# Altium integrated library Renesas Microcontroller H8.IntLib: 489 symbols (part 8 of 25)
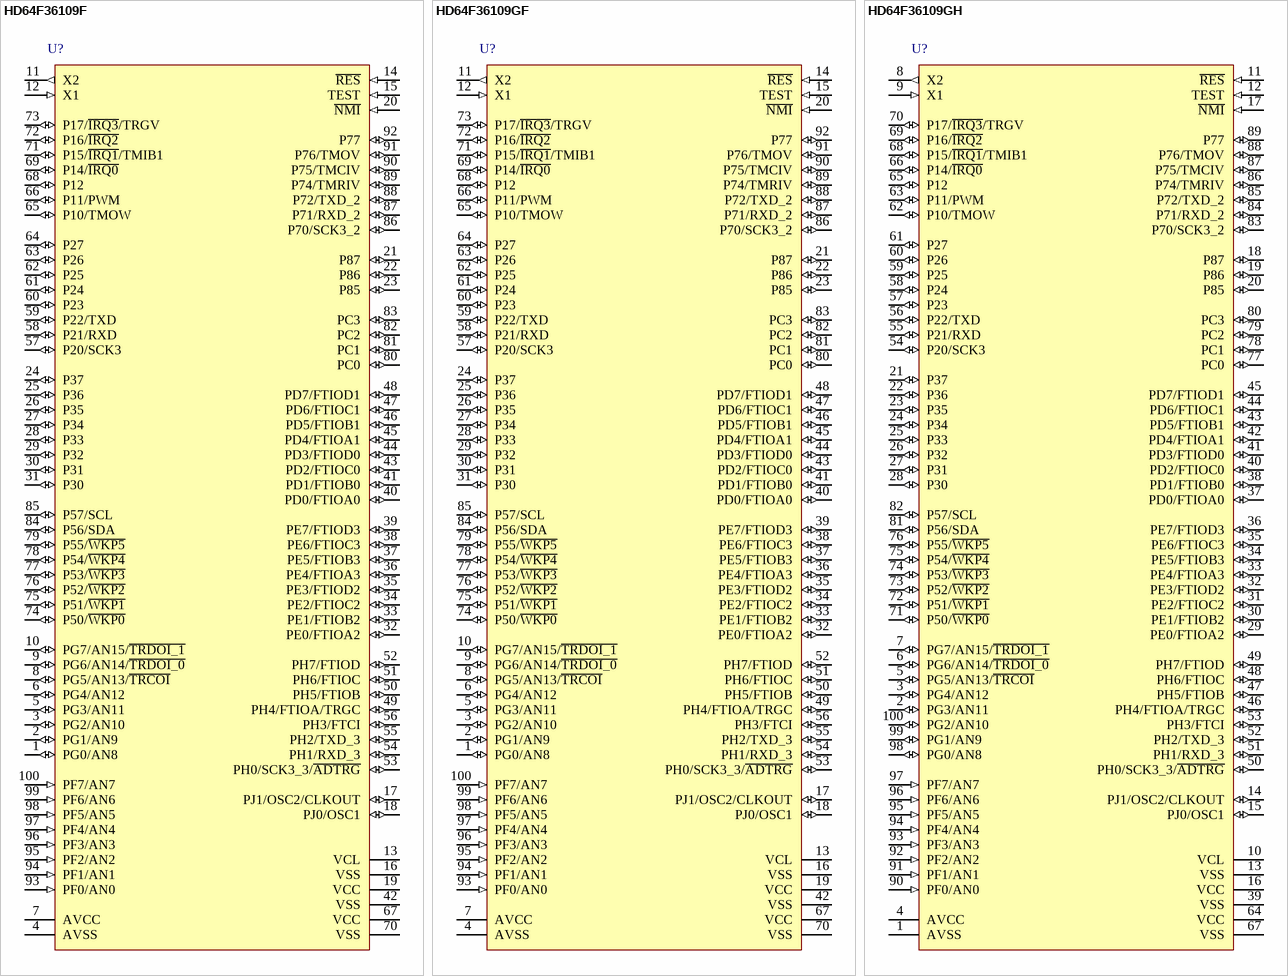
[diagram p95: symbols HD64F36109F to HD64F36109GH]

## HD64F36109F
designator U?
H8 Family 32/16-bit CISC, H8/300H Tiny, 128K ROM, 5K RAM, 4 to 10MHz, 3.0 to 5.5V, 100-Pin QFP; Published: 28-Aug-2009; DatasheetVersion: Rev.1.50, Sep-2007; PackageVersion: Sep-2005; PackageReference: PRQP0100JE-B; Publisher: Altium Limited; PackageDescription: 100-Pin Plastic Quad Flat Pack, 20 x 14 x 2.7 mm Body, 0.65 mm Pitch; Code_JEITA: P-QFP100-14x20-0.65; ComponentLink1Description: Manufacturer Link; ComponentLink1URL: http://sg.renesas.com/fmwk.jsp?cnt=h8_family_landing.jsp&fp=/products/mpumcu/h8_family/; ComponentLink2Description: Datasheet; ComponentLink2URL: http://documentation.renesas.com/eng/products/mpumcu/rej09b0240_h836109hm.pdf; ComponentLink3Description: Packaging Specification; ComponentLink3URL: http://sg.renesas.com/media/products/common_info/package/pdf/ic/code/prqp0100je_b.pdf
footprint PRQP0100JE-B_N (QFP, 100-Leads, Body 20x14mm, Pitch 0.65mm, IPC Medium Density)
footprint PRQP0100JE-B_L (QFP, 100-Leads, Body 20x14mm, Pitch 0.65mm, IPC High Density)
footprint PRQP0100JE-B_M (QFP, 100-Leads, Body 20x14mm, Pitch 0.65mm, IPC Low Density)
pins: 1 PG0/AN8 (io), 2 PG1/AN9 (io), 3 PG2/AN10 (io), 4 AVSS (power), 5 PG3/AN11 (io), 6 PG4/AN12 (io), 7 AVCC (power), 8 PG5/AN13/~{TRCOI} (io), 9 PG6/AN14/~{TRDOI_0} (io), 10 PG7/AN15/~{TRDOI_1} (io), 11 X2 (out), 12 X1 (in), 13 VCL (power), 14 ~{RES} (in), 15 TEST (in), 16 VSS (power), 17 PJ1/OSC2/CLKOUT (io), 18 PJ0/OSC1 (io), 19 VCC (power), 20 ~{NMI} (in), 21 P87 (io), 22 P86 (io), 23 P85 (io), 24 P37 (io), 25 P36 (io), 26 P35 (io), 27 P34 (io), 28 P33 (io), 29 P32 (io), 30 P31 (io), 31 P30 (io), 32 PE0/FTIOA2 (io), 33 PE1/FTIOB2 (io), 34 PE2/FTIOC2 (io), 35 PE3/FTIOD2 (io), 36 PE4/FTIOA3 (io), 37 PE5/FTIOB3 (io), 38 PE6/FTIOC3 (io), 39 PE7/FTIOD3 (io), 40 PD0/FTIOA0 (io), 41 PD1/FTIOB0 (io), 42 VSS (power), 43 PD2/FTIOC0 (io), 44 PD3/FTIOD0 (io), 45 PD4/FTIOA1 (io), 46 PD5/FTIOB1 (io), 47 PD6/FTIOC1 (io), 48 PD7/FTIOD1 (io), 49 PH4/FTIOA/TRGC (io), 50 PH5/FTIOB (io), 51 PH6/FTIOC (io), 52 PH7/FTIOD (io), 53 PH0/SCK3_3/~{ADTRG} (io), 54 PH1/RXD_3 (io), 55 PH2/TXD_3 (io), 56 PH3/FTCI (io), 57 P20/SCK3 (io), 58 P21/RXD (io), 59 P22/TXD (io), 60 P23 (io), 61 P24 (io), 62 P25 (io), 63 P26 (io), 64 P27 (io), 65 P10/TMOW (io), 66 P11/PWM (io), 67 VCC (power), 68 P12 (io), 69 P14/~{IRQ0} (io), 70 VSS (power), 71 P15/~{IRQ1}/TMIB1 (io), 72 P16/~{IRQ2} (io), 73 P17/~{IRQ3}/TRGV (io), 74 P50/~{WKP0} (io), 75 P51/~{WKP1} (io), 76 P52/~{WKP2} (io), 77 P53/~{WKP3} (io), 78 P54/~{WKP4} (io), 79 P55/~{WKP5} (io), 80 PC0 (io), 81 PC1 (io), 82 PC2 (io), 83 PC3 (io), 84 P56/SDA (io), 85 P57/SCL (io), 86 P70/SCK3_2 (io), 87 P71/RXD_2 (io), 88 P72/TXD_2 (io), 89 P74/TMRIV (io), 90 P75/TMCIV (io), 91 P76/TMOV (io), 92 P77 (io), 93 PF0/AN0 (in), 94 PF1/AN1 (in), 95 PF2/AN2 (in), 96 PF3/AN3 (in), 97 PF4/AN4 (in), 98 PF5/AN5 (in), 99 PF6/AN6 (in), 100 PF7/AN7 (in)

## HD64F36109GF
designator U?
H8 Family 32/16-bit CISC, H8/300H Tiny, 128K ROM, 5K RAM, 4 to 10MHz, 3.0 to 5.5V, 100-Pin QFP; Published: 28-Aug-2009; DatasheetVersion: Rev.1.50, Sep-2007; PackageVersion: Sep-2005; PackageReference: PRQP0100JE-B; Publisher: Altium Limited; PackageDescription: 100-Pin Plastic Quad Flat Pack, 20 x 14 x 2.7 mm Body, 0.65 mm Pitch; Code_JEITA: P-QFP100-14x20-0.65; ComponentLink1Description: Manufacturer Link; ComponentLink1URL: http://sg.renesas.com/fmwk.jsp?cnt=h8_family_landing.jsp&fp=/products/mpumcu/h8_family/; ComponentLink2Description: Datasheet; ComponentLink2URL: http://documentation.renesas.com/eng/products/mpumcu/rej09b0240_h836109hm.pdf; ComponentLink3Description: Packaging Specification; ComponentLink3URL: http://sg.renesas.com/media/products/common_info/package/pdf/ic/code/prqp0100je_b.pdf
footprint PRQP0100JE-B_N (QFP, 100-Leads, Body 20x14mm, Pitch 0.65mm, IPC Medium Density)
footprint PRQP0100JE-B_L (QFP, 100-Leads, Body 20x14mm, Pitch 0.65mm, IPC High Density)
footprint PRQP0100JE-B_M (QFP, 100-Leads, Body 20x14mm, Pitch 0.65mm, IPC Low Density)
pins: 1 PG0/AN8 (io), 2 PG1/AN9 (io), 3 PG2/AN10 (io), 4 AVSS (power), 5 PG3/AN11 (io), 6 PG4/AN12 (io), 7 AVCC (power), 8 PG5/AN13/~{TRCOI} (io), 9 PG6/AN14/~{TRDOI_0} (io), 10 PG7/AN15/~{TRDOI_1} (io), 11 X2 (out), 12 X1 (in), 13 VCL (power), 14 ~{RES} (in), 15 TEST (in), 16 VSS (power), 17 PJ1/OSC2/CLKOUT (io), 18 PJ0/OSC1 (io), 19 VCC (power), 20 ~{NMI} (in), 21 P87 (io), 22 P86 (io), 23 P85 (io), 24 P37 (io), 25 P36 (io), 26 P35 (io), 27 P34 (io), 28 P33 (io), 29 P32 (io), 30 P31 (io), 31 P30 (io), 32 PE0/FTIOA2 (io), 33 PE1/FTIOB2 (io), 34 PE2/FTIOC2 (io), 35 PE3/FTIOD2 (io), 36 PE4/FTIOA3 (io), 37 PE5/FTIOB3 (io), 38 PE6/FTIOC3 (io), 39 PE7/FTIOD3 (io), 40 PD0/FTIOA0 (io), 41 PD1/FTIOB0 (io), 42 VSS (power), 43 PD2/FTIOC0 (io), 44 PD3/FTIOD0 (io), 45 PD4/FTIOA1 (io), 46 PD5/FTIOB1 (io), 47 PD6/FTIOC1 (io), 48 PD7/FTIOD1 (io), 49 PH4/FTIOA/TRGC (io), 50 PH5/FTIOB (io), 51 PH6/FTIOC (io), 52 PH7/FTIOD (io), 53 PH0/SCK3_3/~{ADTRG} (io), 54 PH1/RXD_3 (io), 55 PH2/TXD_3 (io), 56 PH3/FTCI (io), 57 P20/SCK3 (io), 58 P21/RXD (io), 59 P22/TXD (io), 60 P23 (io), 61 P24 (io), 62 P25 (io), 63 P26 (io), 64 P27 (io), 65 P10/TMOW (io), 66 P11/PWM (io), 67 VCC (power), 68 P12 (io), 69 P14/~{IRQ0} (io), 70 VSS (power), 71 P15/~{IRQ1}/TMIB1 (io), 72 P16/~{IRQ2} (io), 73 P17/~{IRQ3}/TRGV (io), 74 P50/~{WKP0} (io), 75 P51/~{WKP1} (io), 76 P52/~{WKP2} (io), 77 P53/~{WKP3} (io), 78 P54/~{WKP4} (io), 79 P55/~{WKP5} (io), 80 PC0 (io), 81 PC1 (io), 82 PC2 (io), 83 PC3 (io), 84 P56/SDA (io), 85 P57/SCL (io), 86 P70/SCK3_2 (io), 87 P71/RXD_2 (io), 88 P72/TXD_2 (io), 89 P74/TMRIV (io), 90 P75/TMCIV (io), 91 P76/TMOV (io), 92 P77 (io), 93 PF0/AN0 (in), 94 PF1/AN1 (in), 95 PF2/AN2 (in), 96 PF3/AN3 (in), 97 PF4/AN4 (in), 98 PF5/AN5 (in), 99 PF6/AN6 (in), 100 PF7/AN7 (in)

## HD64F36109GH
designator U?
H8 Family 32/16-bit CISC, H8/300H Tiny, 128K ROM, 5K RAM, 4 to 10MHz, 3.0 to 5.5V, 100-Pin QFP; Published: 28-Aug-2009; DatasheetVersion: Rev.1.50, Sep-2007; PackageVersion: Sep-2005; PackageReference: PLQP0100KB-A; Publisher: Altium Limited; PackageDescription: 100-Pin Plastic Low Profile QFP, 14 x 14 x 1.4 mm Body, 0.5 mm Pitch; Code_JEITA: P-LQFP100-14x14-0.50; Code_IPC: SQFP50P1600X1600-100; ComponentLink1Description: Manufacturer Link; ComponentLink1URL: http://sg.renesas.com/fmwk.jsp?cnt=h8_family_landing.jsp&fp=/products/mpumcu/h8_family/; ComponentLink2Description: Datasheet; ComponentLink2URL: http://documentation.renesas.com/eng/products/mpumcu/rej09b0240_h836109hm.pdf; ComponentLink3Description: Packaging Specification; ComponentLink3URL: http://sg.renesas.com/media/products/common_info/package/pdf/ic/code/plqp0100kb_a.pdf
footprint PLQP0100KB-A_N (Shrink QFP, 100-Leads, Body 14x14mm, Pitch 0.5mm, IPC Medium Density)
footprint PLQP0100KB-A_L (Shrink QFP, 100-Leads, Body 14x14mm, Pitch 0.5mm, IPC High Density)
footprint PLQP0100KB-A_M (Shrink QFP, 100-Leads, Body 14x14mm, Pitch 0.5mm, IPC Low Density)
pins: 1 AVSS (power), 2 PG3/AN11 (io), 3 PG4/AN12 (io), 4 AVCC (power), 5 PG5/AN13/~{TRCOI} (io), 6 PG6/AN14/~{TRDOI_0} (io), 7 PG7/AN15/~{TRDOI_1} (io), 8 X2 (out), 9 X1 (in), 10 VCL (power), 11 ~{RES} (in), 12 TEST (in), 13 VSS (power), 14 PJ1/OSC2/CLKOUT (io), 15 PJ0/OSC1 (io), 16 VCC (power), 17 ~{NMI} (in), 18 P87 (io), 19 P86 (io), 20 P85 (io), 21 P37 (io), 22 P36 (io), 23 P35 (io), 24 P34 (io), 25 P33 (io), 26 P32 (io), 27 P31 (io), 28 P30 (io), 29 PE0/FTIOA2 (io), 30 PE1/FTIOB2 (io), 31 PE2/FTIOC2 (io), 32 PE3/FTIOD2 (io), 33 PE4/FTIOA3 (io), 34 PE5/FTIOB3 (io), 35 PE6/FTIOC3 (io), 36 PE7/FTIOD3 (io), 37 PD0/FTIOA0 (io), 38 PD1/FTIOB0 (io), 39 VSS (power), 40 PD2/FTIOC0 (io), 41 PD3/FTIOD0 (io), 42 PD4/FTIOA1 (io), 43 PD5/FTIOB1 (io), 44 PD6/FTIOC1 (io), 45 PD7/FTIOD1 (io), 46 PH4/FTIOA/TRGC (io), 47 PH5/FTIOB (io), 48 PH6/FTIOC (io), 49 PH7/FTIOD (io), 50 PH0/SCK3_3/~{ADTRG} (io), 51 PH1/RXD_3 (io), 52 PH2/TXD_3 (io), 53 PH3/FTCI (io), 54 P20/SCK3 (io), 55 P21/RXD (io), 56 P22/TXD (io), 57 P23 (io), 58 P24 (io), 59 P25 (io), 60 P26 (io), 61 P27 (io), 62 P10/TMOW (io), 63 P11/PWM (io), 64 VCC (power), 65 P12 (io), 66 P14/~{IRQ0} (io), 67 VSS (power), 68 P15/~{IRQ1}/TMIB1 (io), 69 P16/~{IRQ2} (io), 70 P17/~{IRQ3}/TRGV (io), 71 P50/~{WKP0} (io), 72 P51/~{WKP1} (io), 73 P52/~{WKP2} (io), 74 P53/~{WKP3} (io), 75 P54/~{WKP4} (io), 76 P55/~{WKP5} (io), 77 PC0 (io), 78 PC1 (io), 79 PC2 (io), 80 PC3 (io), 81 P56/SDA (io), 82 P57/SCL (io), 83 P70/SCK3_2 (io), 84 P71/RXD_2 (io), 85 P72/TXD_2 (io), 86 P74/TMRIV (io), 87 P75/TMCIV (io), 88 P76/TMOV (io), 89 P77 (io), 90 PF0/AN0 (in), 91 PF1/AN1 (in), 92 PF2/AN2 (in), 93 PF3/AN3 (in), 94 PF4/AN4 (in), 95 PF5/AN5 (in), 96 PF6/AN6 (in), 97 PF7/AN7 (in), 98 PG0/AN8 (io), 99 PG1/AN9 (io), 100 PG2/AN10 (io)

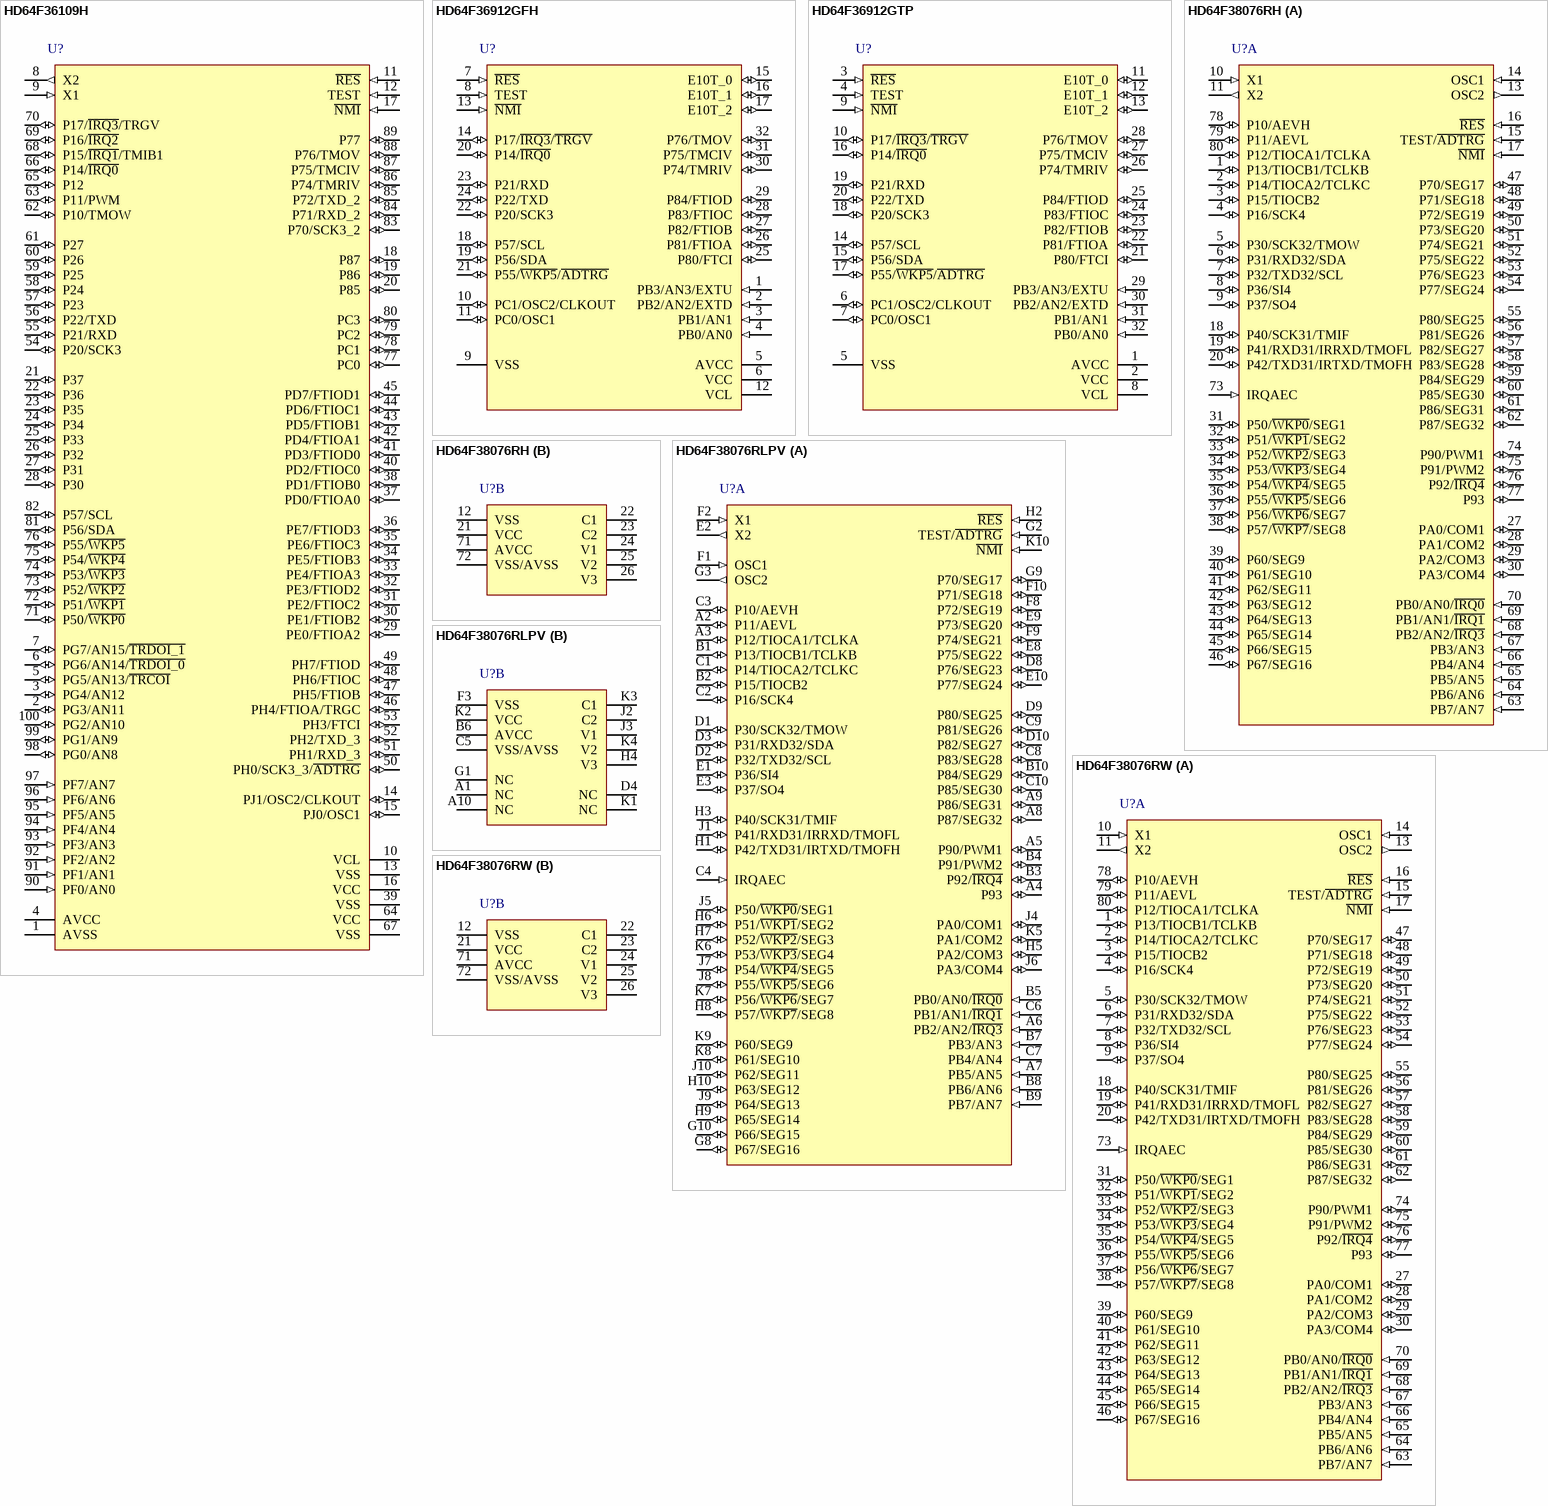
[diagram p25: symbols HD64F36109H to HD64F38076RW]

## HD64F36109H
designator U?
H8 Family 32/16-bit CISC, H8/300H Tiny, 128K ROM, 5K RAM, 4 to 10MHz, 3.0 to 5.5V, 100-Pin QFP; Published: 28-Aug-2009; DatasheetVersion: Rev.1.50, Sep-2007; PackageVersion: Sep-2005; PackageReference: PLQP0100KB-A; Publisher: Altium Limited; PackageDescription: 100-Pin Plastic Low Profile QFP, 14 x 14 x 1.4 mm Body, 0.5 mm Pitch; Code_JEITA: P-LQFP100-14x14-0.50; Code_IPC: SQFP50P1600X1600-100; ComponentLink1Description: Manufacturer Link; ComponentLink1URL: http://sg.renesas.com/fmwk.jsp?cnt=h8_family_landing.jsp&fp=/products/mpumcu/h8_family/; ComponentLink2Description: Datasheet; ComponentLink2URL: http://documentation.renesas.com/eng/products/mpumcu/rej09b0240_h836109hm.pdf; ComponentLink3Description: Packaging Specification; ComponentLink3URL: http://sg.renesas.com/media/products/common_info/package/pdf/ic/code/plqp0100kb_a.pdf
footprint PLQP0100KB-A_N (Shrink QFP, 100-Leads, Body 14x14mm, Pitch 0.5mm, IPC Medium Density)
footprint PLQP0100KB-A_L (Shrink QFP, 100-Leads, Body 14x14mm, Pitch 0.5mm, IPC High Density)
footprint PLQP0100KB-A_M (Shrink QFP, 100-Leads, Body 14x14mm, Pitch 0.5mm, IPC Low Density)
pins: 1 AVSS (power), 2 PG3/AN11 (io), 3 PG4/AN12 (io), 4 AVCC (power), 5 PG5/AN13/~{TRCOI} (io), 6 PG6/AN14/~{TRDOI_0} (io), 7 PG7/AN15/~{TRDOI_1} (io), 8 X2 (out), 9 X1 (in), 10 VCL (power), 11 ~{RES} (in), 12 TEST (in), 13 VSS (power), 14 PJ1/OSC2/CLKOUT (io), 15 PJ0/OSC1 (io), 16 VCC (power), 17 ~{NMI} (in), 18 P87 (io), 19 P86 (io), 20 P85 (io), 21 P37 (io), 22 P36 (io), 23 P35 (io), 24 P34 (io), 25 P33 (io), 26 P32 (io), 27 P31 (io), 28 P30 (io), 29 PE0/FTIOA2 (io), 30 PE1/FTIOB2 (io), 31 PE2/FTIOC2 (io), 32 PE3/FTIOD2 (io), 33 PE4/FTIOA3 (io), 34 PE5/FTIOB3 (io), 35 PE6/FTIOC3 (io), 36 PE7/FTIOD3 (io), 37 PD0/FTIOA0 (io), 38 PD1/FTIOB0 (io), 39 VSS (power), 40 PD2/FTIOC0 (io), 41 PD3/FTIOD0 (io), 42 PD4/FTIOA1 (io), 43 PD5/FTIOB1 (io), 44 PD6/FTIOC1 (io), 45 PD7/FTIOD1 (io), 46 PH4/FTIOA/TRGC (io), 47 PH5/FTIOB (io), 48 PH6/FTIOC (io), 49 PH7/FTIOD (io), 50 PH0/SCK3_3/~{ADTRG} (io), 51 PH1/RXD_3 (io), 52 PH2/TXD_3 (io), 53 PH3/FTCI (io), 54 P20/SCK3 (io), 55 P21/RXD (io), 56 P22/TXD (io), 57 P23 (io), 58 P24 (io), 59 P25 (io), 60 P26 (io), 61 P27 (io), 62 P10/TMOW (io), 63 P11/PWM (io), 64 VCC (power), 65 P12 (io), 66 P14/~{IRQ0} (io), 67 VSS (power), 68 P15/~{IRQ1}/TMIB1 (io), 69 P16/~{IRQ2} (io), 70 P17/~{IRQ3}/TRGV (io), 71 P50/~{WKP0} (io), 72 P51/~{WKP1} (io), 73 P52/~{WKP2} (io), 74 P53/~{WKP3} (io), 75 P54/~{WKP4} (io), 76 P55/~{WKP5} (io), 77 PC0 (io), 78 PC1 (io), 79 PC2 (io), 80 PC3 (io), 81 P56/SDA (io), 82 P57/SCL (io), 83 P70/SCK3_2 (io), 84 P71/RXD_2 (io), 85 P72/TXD_2 (io), 86 P74/TMRIV (io), 87 P75/TMCIV (io), 88 P76/TMOV (io), 89 P77 (io), 90 PF0/AN0 (in), 91 PF1/AN1 (in), 92 PF2/AN2 (in), 93 PF3/AN3 (in), 94 PF4/AN4 (in), 95 PF5/AN5 (in), 96 PF6/AN6 (in), 97 PF7/AN7 (in), 98 PG0/AN8 (io), 99 PG1/AN9 (io), 100 PG2/AN10 (io)

## HD64F36912GFH
designator U?
H8 Family 32/16-bit CISC, H8/300H Tiny, 8K ROM, 1.5K RAM, 1 to 12MHz, 3.0 to 5.5V, 32-Pin QFP; Published: 28-Aug-2009; DatasheetVersion: Rev.3.00, Sep-2006; PackageVersion: Oct-2005; PackageReference: PLQP0032GB-A; Publisher: Altium Limited; PackageDescription: 32-Pin Plastic Low Profile QFP, 7 x 7 x 1.4 mm Body, 0.8 mm Pitch; Supplier 1: Digi-Key; Supplier Part Number 1: HD64F36912GFH-ND; Code_JEITA: P-LQFP32-7x7-0.80; ComponentLink1Description: Manufacturer Link; ComponentLink1URL: http://sg.renesas.com/fmwk.jsp?cnt=h8_family_landing.jsp&fp=/products/mpumcu/h8_family/; ComponentLink2Description: Datasheet; ComponentLink2URL: http://documentation.renesas.com/eng/products/mpumcu/rej09b0105_h836912.pdf; ComponentLink3Description: Packaging Specification; ComponentLink3URL: http://sg.renesas.com/media/products/common_info/package/pdf/ic/code/plqp0032gb_a.pdf
footprint PLQP0032GB-A_N (QFP, 32-Leads, Body 7x7mm, Pitch 0.8mm, IPC Medium Density)
footprint PLQP0032GB-A_L (QFP, 32-Leads, Body 7x7mm, Pitch 0.8mm, IPC High Density)
footprint PLQP0032GB-A_M (QFP, 32-Leads, Body 7x7mm, Pitch 0.8mm, IPC Low Density)
pins: 1 PB3/AN3/EXTU (in), 2 PB2/AN2/EXTD (in), 3 PB1/AN1 (in), 4 PB0/AN0 (in), 5 AVCC (power), 6 VCC (power), 7 ~{RES} (in), 8 TEST (in), 9 VSS (power), 10 PC1/OSC2/CLKOUT (io), 11 PC0/OSC1 (io), 12 VCL (power), 13 ~{NMI} (in), 14 P17/~{IRQ3}/~{TRGV} (io), 15 E10T_0 (io), 16 E10T_1 (io), 17 E10T_2 (io), 18 P57/SCL (io), 19 P56/SDA (io), 20 P14/~{IRQ0} (io), 21 P55/~{WKP5}/~{ADTRG} (io), 22 P20/SCK3 (io), 23 P21/RXD (io), 24 P22/TXD (io), 25 P80/FTCI (io), 26 P81/FTIOA (io), 27 P82/FTIOB (io), 28 P83/FTIOC (io), 29 P84/FTIOD (io), 30 P74/TMRIV (io), 31 P75/TMCIV (io), 32 P76/TMOV (io)

## HD64F36912GTP
designator U?
H8 Family 32/16-bit CISC, H8/300H Tiny, 8K ROM, 1.5K RAM, 1 to 12MHz, 3.0 to 5.5V, 32-Pin; Published: 28-Aug-2009; DatasheetVersion: Rev.3.00, Sep-2006; PackageVersion: Sep-2005; PackageReference: PRSP0032DC-A; Publisher: Altium Limited; PackageDescription: 32-Pin Plastic Small Outline Package, 20.8 x 11.3 mm Body, 1.27 mm Pitch; Code_JEITA: P-SOP32-11.3x20.45-1.27; ComponentLink1Description: Manufacturer Link; ComponentLink1URL: http://sg.renesas.com/fmwk.jsp?cnt=h8_family_landing.jsp&fp=/products/mpumcu/h8_family/; ComponentLink2Description: Datasheet; ComponentLink2URL: http://documentation.renesas.com/eng/products/mpumcu/rej09b0105_h836912.pdf; ComponentLink3Description: Packaging Specification; ComponentLink3URL: http://sg.renesas.com/media/products/common_info/package/pdf/ic/code/prsp0032dc_a.pdf
footprint PRSP0032DC-A_N (SOP, 32-Leads, Body 20.8x11.3mm, Pitch 1.27mm, IPC Medium Density)
footprint PRSP0032DC-A_L (SOP, 32-Leads, Body 20.8x11.3mm, Pitch 1.27mm, IPC High Density)
footprint PRSP0032DC-A_M (SOP, 32-Leads, Body 20.8x11.3mm, Pitch 1.27mm, IPC Low Density)
pins: 1 AVCC (power), 2 VCC (power), 3 ~{RES} (in), 4 TEST (in), 5 VSS (power), 6 PC1/OSC2/CLKOUT (io), 7 PC0/OSC1 (io), 8 VCL (power), 9 ~{NMI} (in), 10 P17/~{IRQ3}/~{TRGV} (io), 11 E10T_0 (io), 12 E10T_1 (io), 13 E10T_2 (io), 14 P57/SCL (io), 15 P56/SDA (io), 16 P14/~{IRQ0} (io), 17 P55/~{WKP5}/~{ADTRG} (io), 18 P20/SCK3 (io), 19 P21/RXD (io), 20 P22/TXD (io), 21 P80/FTCI (io), 22 P81/FTIOA (io), 23 P82/FTIOB (io), 24 P83/FTIOC (io), 25 P84/FTIOD (io), 26 P74/TMRIV (io), 27 P75/TMCIV (io), 28 P76/TMOV (io), 29 PB3/AN3/EXTU (in), 30 PB2/AN2/EXTD (in), 31 PB1/AN1 (in), 32 PB0/AN0 (in)

## HD64F38076RH
designator U?
H8 Family 32/16-bit CISC, H8/300H Super Low Power, 48K ROM, 2K RAM, 4.2MHz, 1.8 to 3.6V, 80-Pin QFP; Published: 28-Aug-2009; DatasheetVersion: Rev.4.00, Aug-2006; PackageVersion: Sep-2005; PackageReference: PRQP0080JB-A; Publisher: Altium Limited; PackageDescription: 80-Pin Plastic Quad Flat Pack, 14 x 14 x 2.7 mm Body, 0.65 mm Pitch; Code_JEITA: P-QFP80-14x14-0.65; Code_IPC: QFP65P1720X1720-80; ComponentLink1Description: Manufacturer Link; ComponentLink1URL: http://sg.renesas.com/fmwk.jsp?cnt=h8_family_landing.jsp&fp=/products/mpumcu/h8_family/; ComponentLink2Description: Datasheet; ComponentLink2URL: http://documentation.renesas.com/eng/products/mpumcu/rej09b0093_h838076r.pdf; ComponentLink3Description: Packaging Specification; ComponentLink3URL: http://sg.renesas.com/media/products/common_info/package/pdf/ic/code/prqp0080jb_a.pdf
footprint PRQP0080JB-A_N (QFP, 80-Leads, Body 14x14mm, Pitch 0.65mm, IPC Medium Density)
footprint PRQP0080JB-A_L (QFP, 80-Leads, Body 14x14mm, Pitch 0.65mm, IPC High Density)
footprint PRQP0080JB-A_M (QFP, 80-Leads, Body 14x14mm, Pitch 0.65mm, IPC Low Density)
part A pins: 1 P13/TIOCB1/TCLKB (io), 2 P14/TIOCA2/TCLKC (io), 3 P15/TIOCB2 (io), 4 P16/SCK4 (io), 5 P30/SCK32/TMOW (io), 6 P31/RXD32/SDA (io), 7 P32/TXD32/SCL (io), 8 P36/SI4 (io), 9 P37/SO4 (io), 10 X1 (in), 11 X2 (out), 13 OSC2 (out), 14 OSC1 (in), 15 TEST/~{ADTRG} (in), 16 ~{RES} (in), 17 ~{NMI} (in), 18 P40/SCK31/TMIF (io), 19 P41/RXD31/IRRXD/TMOFL (io), 20 P42/TXD31/IRTXD/TMOFH (io), 27 PA0/COM1 (io), 28 PA1/COM2 (io), 29 PA2/COM3 (io), 30 PA3/COM4 (io), 31 P50/~{WKP0}/SEG1 (io), 32 P51/~{WKP1}/SEG2 (io), 33 P52/~{WKP2}/SEG3 (io), 34 P53/~{WKP3}/SEG4 (io), 35 P54/~{WKP4}/SEG5 (io), 36 P55/~{WKP5}/SEG6 (io), 37 P56/~{WKP6}/SEG7 (io), 38 P57/~{WKP7}/SEG8 (io), 39 P60/SEG9 (io), 40 P61/SEG10 (io), 41 P62/SEG11 (io), 42 P63/SEG12 (io), 43 P64/SEG13 (io), 44 P65/SEG14 (io), 45 P66/SEG15 (io), 46 P67/SEG16 (io), 47 P70/SEG17 (io), 48 P71/SEG18 (io), 49 P72/SEG19 (io), 50 P73/SEG20 (io), 51 P74/SEG21 (io), 52 P75/SEG22 (io), 53 P76/SEG23 (io), 54 P77/SEG24 (io), 55 P80/SEG25 (io), 56 P81/SEG26 (io), 57 P82/SEG27 (io), 58 P83/SEG28 (io), 59 P84/SEG29 (io), 60 P85/SEG30 (io), 61 P86/SEG31 (io), 62 P87/SEG32 (io), 63 PB7/AN7 (in), 64 PB6/AN6 (in), 65 PB5/AN5 (in), 66 PB4/AN4 (in), 67 PB3/AN3 (in), 68 PB2/AN2/~{IRQ3} (in), 69 PB1/AN1/~{IRQ1} (in), 70 PB0/AN0/~{IRQ0} (in), 73 IRQAEC (in), 74 P90/PWM1 (io), 75 P91/PWM2 (io), 76 P92/~{IRQ4} (io), 77 P93 (io), 78 P10/AEVH (io), 79 P11/AEVL (io), 80 P12/TIOCA1/TCLKA (io)
part B pins: 12 VSS (power), 21 VCC (power), 22 C1 (power), 23 C2 (power), 24 V1 (power), 25 V2 (power), 26 V3 (power), 71 AVCC (power), 72 VSS/AVSS (power)

## HD64F38076RLPV
designator U?
H8 Family 32/16-bit CISC, H8/300H Super Low Power, 48K ROM, 2K RAM, 4.2MHz, 1.8 to 3.6V, 85-Ball BGA; Published: 28-Aug-2009; DatasheetVersion: Rev.4.00, Aug-2006; PackageVersion: Sep-2005; PackageReference: PTLG0085JA-A; Publisher: Altium Limited; PackageDescription: 85-Ball Plastic Thin Fine-Pitch BGA, 7 x 7 mm Body, 0.65 mm Pitch; Code_JEITA: P-TFLGA85-7x7-0.65; ComponentLink1Description: Manufacturer Link; ComponentLink1URL: http://sg.renesas.com/fmwk.jsp?cnt=h8_family_landing.jsp&fp=/products/mpumcu/h8_family/; ComponentLink2Description: Datasheet; ComponentLink2URL: http://documentation.renesas.com/eng/products/mpumcu/rej09b0093_h838076r.pdf; ComponentLink3Description: Packaging Specification; ComponentLink3URL: http://sg.renesas.com/media/products/common_info/package/pdf/ic/code/ptlg0085ja_a.pdf
footprint PTLG0085JA-A (BGA, 85-Leads, Body 7x7mm, Pitch 0.65mm)
part A pins: A2 P11/AEVL (io), A3 P12/TIOCA1/TCLKA (io), A4 P93 (io), A5 P90/PWM1 (io), A6 PB2/AN2/~{IRQ3} (in), A7 PB5/AN5 (in), A8 P87/SEG32 (io), A9 P86/SEG31 (io), B1 P13/TIOCB1/TCLKB (io), B2 P15/TIOCB2 (io), B3 P92/~{IRQ4} (io), B4 P91/PWM2 (io), B5 PB0/AN0/~{IRQ0} (in), B7 PB3/AN3 (in), B8 PB6/AN6 (in), B9 PB7/AN7 (in), B10 P84/SEG29 (io), C1 P14/TIOCA2/TCLKC (io), C2 P16/SCK4 (io), C3 P10/AEVH (io), C4 IRQAEC (in), C6 PB1/AN1/~{IRQ1} (in), C7 PB4/AN4 (in), C8 P83/SEG28 (io), C9 P81/SEG26 (io), C10 P85/SEG30 (io), D1 P30/SCK32/TMOW (io), D2 P32/TXD32/SCL (io), D3 P31/RXD32/SDA (io), D8 P76/SEG23 (io), D9 P80/SEG25 (io), D10 P82/SEG27 (io), E1 P36/SI4 (io), E2 X2 (out), E3 P37/SO4 (io), E8 P75/SEG22 (io), E9 P73/SEG20 (io), E10 P77/SEG24 (io), F1 OSC1 (in), F2 X1 (in), F8 P72/SEG19 (io), F9 P74/SEG21 (io), F10 P71/SEG18 (io), G2 TEST/~{ADTRG} (in), G3 OSC2 (out), G8 P67/SEG16 (io), G9 P70/SEG17 (io), G10 P66/SEG15 (io), H1 P42/TXD31/IRTXD/TMOFH (io), H2 ~{RES} (in), H3 P40/SCK31/TMIF (io), H5 PA2/COM3 (io), H6 P51/~{WKP1}/SEG2 (io), H7 P52/~{WKP2}/SEG3 (io), H8 P57/~{WKP7}/SEG8 (io), H9 P65/SEG14 (io), H10 P63/SEG12 (io), J1 P41/RXD31/IRRXD/TMOFL (io), J4 PA0/COM1 (io), J5 P50/~{WKP0}/SEG1 (io), J6 PA3/COM4 (io), J7 P54/~{WKP4}/SEG5 (io), J8 P55/~{WKP5}/SEG6 (io), J9 P64/SEG13 (io), J10 P62/SEG11 (io), K5 PA1/COM2 (io), K6 P53/~{WKP3}/SEG4 (io), K7 P56/~{WKP6}/SEG7 (io), K8 P61/SEG10 (io), K9 P60/SEG9 (io), K10 ~{NMI} (in)
part B pins: A1 NC, A10 NC, B6 AVCC (power), C5 VSS/AVSS (power), D4 NC, F3 VSS (power), G1 NC, H4 V3 (power), J2 C2 (power), J3 V1 (power), K1 NC, K2 VCC (power), K3 C1 (power), K4 V2 (power)

## HD64F38076RW
designator U?
H8 Family 32/16-bit CISC, H8/300H Super Low Power, 48K ROM, 2K RAM, 4.2MHz, 1.8 to 3.6V, 80-Pin QFP; Published: 28-Aug-2009; DatasheetVersion: Rev.4.00, Aug-2006; PackageVersion: Sep-2005; PackageReference: PTQP0080KC-A; Publisher: Altium Limited; PackageDescription: 80-Pin Plastic Thin Quad Flat Pack, 12 x 12 x 1.0 mm Body, 0.5 mm Pitch; Code_JEITA: P-TQFP80-12x12-0.50; ComponentLink1Description: Manufacturer Link; ComponentLink1URL: http://sg.renesas.com/fmwk.jsp?cnt=h8_family_landing.jsp&fp=/products/mpumcu/h8_family/; ComponentLink2Description: Datasheet; ComponentLink2URL: http://documentation.renesas.com/eng/products/mpumcu/rej09b0093_h838076r.pdf; ComponentLink3Description: Packaging Specification; ComponentLink3URL: http://sg.renesas.com/media/products/common_info/package/pdf/ic/code/ptqp0080kc_a.pdf
footprint PTQP0080KC-A_N (Thin QFP, 80-Leads, Body 12x12mm, Pitch 0.5mm, IPC Medium Density)
footprint PTQP0080KC-A_L (Thin QFP, 80-Leads, Body 12x12mm, Pitch 0.5mm, IPC High Density)
footprint PTQP0080KC-A_M (Thin QFP, 80-Leads, Body 12x12mm, Pitch 0.5mm, IPC Low Density)
part A pins: 1 P13/TIOCB1/TCLKB (io), 2 P14/TIOCA2/TCLKC (io), 3 P15/TIOCB2 (io), 4 P16/SCK4 (io), 5 P30/SCK32/TMOW (io), 6 P31/RXD32/SDA (io), 7 P32/TXD32/SCL (io), 8 P36/SI4 (io), 9 P37/SO4 (io), 10 X1 (in), 11 X2 (out), 13 OSC2 (out), 14 OSC1 (in), 15 TEST/~{ADTRG} (in), 16 ~{RES} (in), 17 ~{NMI} (in), 18 P40/SCK31/TMIF (io), 19 P41/RXD31/IRRXD/TMOFL (io), 20 P42/TXD31/IRTXD/TMOFH (io), 27 PA0/COM1 (io), 28 PA1/COM2 (io), 29 PA2/COM3 (io), 30 PA3/COM4 (io), 31 P50/~{WKP0}/SEG1 (io), 32 P51/~{WKP1}/SEG2 (io), 33 P52/~{WKP2}/SEG3 (io), 34 P53/~{WKP3}/SEG4 (io), 35 P54/~{WKP4}/SEG5 (io), 36 P55/~{WKP5}/SEG6 (io), 37 P56/~{WKP6}/SEG7 (io), 38 P57/~{WKP7}/SEG8 (io), 39 P60/SEG9 (io), 40 P61/SEG10 (io), 41 P62/SEG11 (io), 42 P63/SEG12 (io), 43 P64/SEG13 (io), 44 P65/SEG14 (io), 45 P66/SEG15 (io), 46 P67/SEG16 (io), 47 P70/SEG17 (io), 48 P71/SEG18 (io), 49 P72/SEG19 (io), 50 P73/SEG20 (io), 51 P74/SEG21 (io), 52 P75/SEG22 (io), 53 P76/SEG23 (io), 54 P77/SEG24 (io), 55 P80/SEG25 (io), 56 P81/SEG26 (io), 57 P82/SEG27 (io), 58 P83/SEG28 (io), 59 P84/SEG29 (io), 60 P85/SEG30 (io), 61 P86/SEG31 (io), 62 P87/SEG32 (io), 63 PB7/AN7 (in), 64 PB6/AN6 (in), 65 PB5/AN5 (in), 66 PB4/AN4 (in), 67 PB3/AN3 (in), 68 PB2/AN2/~{IRQ3} (in), 69 PB1/AN1/~{IRQ1} (in), 70 PB0/AN0/~{IRQ0} (in), 73 IRQAEC (in), 74 P90/PWM1 (io), 75 P91/PWM2 (io), 76 P92/~{IRQ4} (io), 77 P93 (io), 78 P10/AEVH (io), 79 P11/AEVL (io), 80 P12/TIOCA1/TCLKA (io)
part B pins: 12 VSS (power), 21 VCC (power), 22 C1 (power), 23 C2 (power), 24 V1 (power), 25 V2 (power), 26 V3 (power), 71 AVCC (power), 72 VSS/AVSS (power)

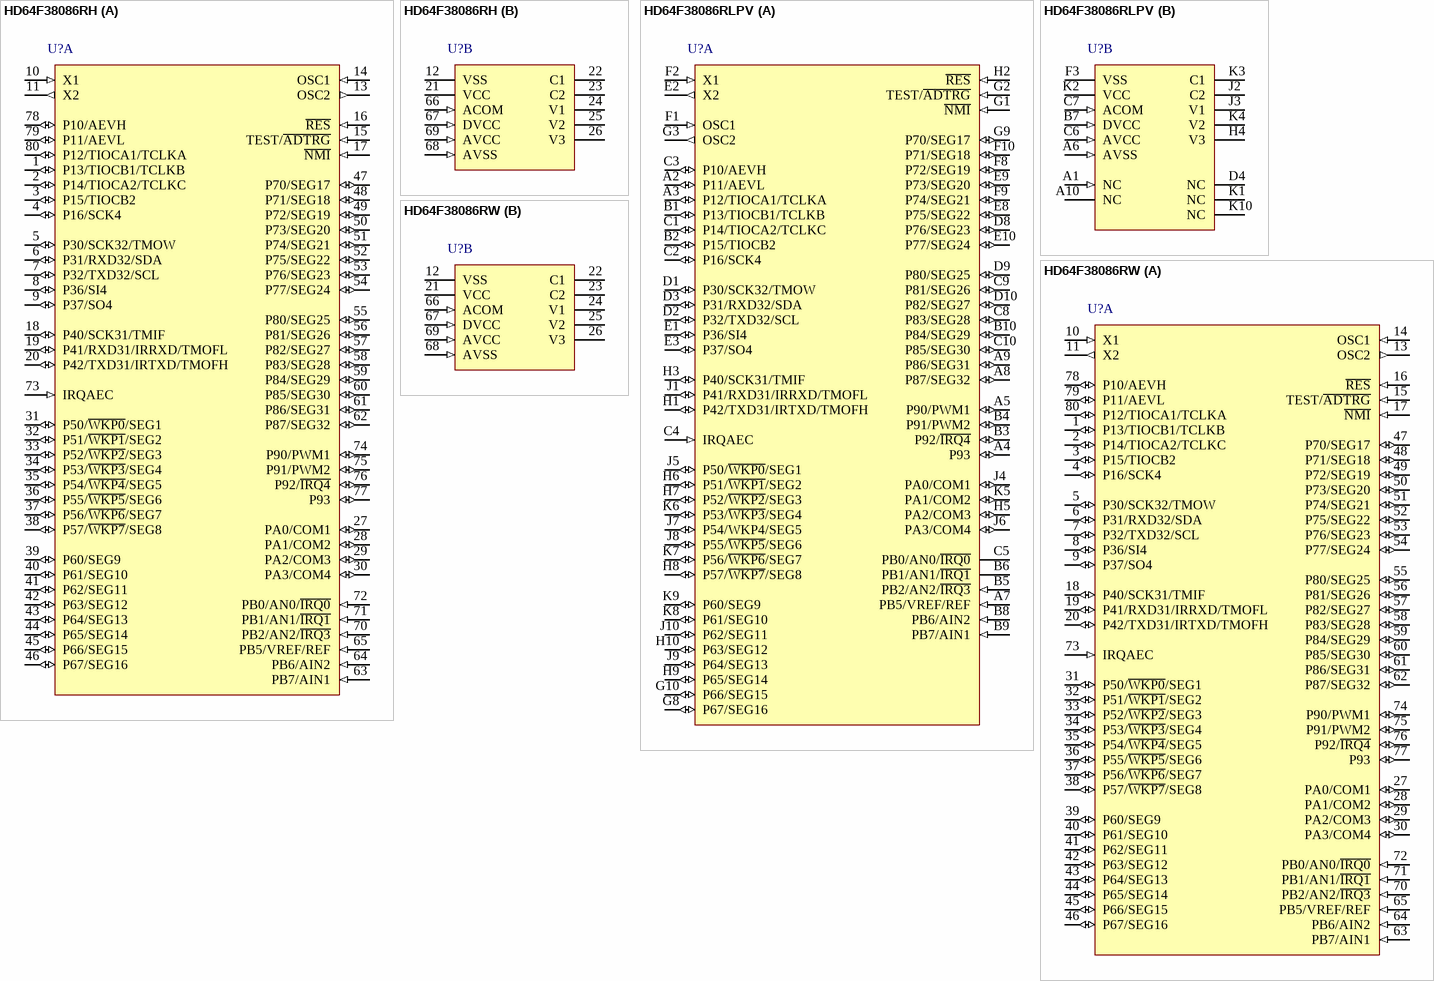
[diagram p26: symbols HD64F38086RH to HD64F38086RW]

## HD64F38086RH
designator U?
H8 Family 32/16-bit CISC, H8/300H Super Low Power, 48K ROM, 2K RAM, 4.2MHz, 1.8 to 3.6V, 80-Pin QFP; Published: 28-Aug-2009; DatasheetVersion: Rev.3.00, Aug-2006; PackageVersion: Sep-2005; PackageReference: PRQP0080JB-A; Publisher: Altium Limited; PackageDescription: 80-Pin Plastic Quad Flat Pack, 14 x 14 x 2.7 mm Body, 0.65 mm Pitch; Code_JEITA: P-QFP80-14x14-0.65; Code_IPC: QFP65P1720X1720-80; ComponentLink1Description: Manufacturer Link; ComponentLink1URL: http://sg.renesas.com/fmwk.jsp?cnt=h8_family_landing.jsp&fp=/products/mpumcu/h8_family/; ComponentLink2Description: Datasheet; ComponentLink2URL: http://documentation.renesas.com/eng/products/mpumcu/rej09b0182_h838086r.pdf; ComponentLink3Description: Packaging Specification; ComponentLink3URL: http://sg.renesas.com/media/products/common_info/package/pdf/ic/code/prqp0080jb_a.pdf
footprint PRQP0080JB-A_N (QFP, 80-Leads, Body 14x14mm, Pitch 0.65mm, IPC Medium Density)
footprint PRQP0080JB-A_L (QFP, 80-Leads, Body 14x14mm, Pitch 0.65mm, IPC High Density)
footprint PRQP0080JB-A_M (QFP, 80-Leads, Body 14x14mm, Pitch 0.65mm, IPC Low Density)
part A pins: 1 P13/TIOCB1/TCLKB (io), 2 P14/TIOCA2/TCLKC (io), 3 P15/TIOCB2 (io), 4 P16/SCK4 (io), 5 P30/SCK32/TMOW (io), 6 P31/RXD32/SDA (io), 7 P32/TXD32/SCL (io), 8 P36/SI4 (io), 9 P37/SO4 (io), 10 X1 (in), 11 X2 (out), 13 OSC2 (out), 14 OSC1 (in), 15 TEST/~{ADTRG} (in), 16 ~{RES} (in), 17 ~{NMI} (in), 18 P40/SCK31/TMIF (io), 19 P41/RXD31/IRRXD/TMOFL (io), 20 P42/TXD31/IRTXD/TMOFH (io), 27 PA0/COM1 (io), 28 PA1/COM2 (io), 29 PA2/COM3 (io), 30 PA3/COM4 (io), 31 P50/~{WKP0}/SEG1 (io), 32 P51/~{WKP1}/SEG2 (io), 33 P52/~{WKP2}/SEG3 (io), 34 P53/~{WKP3}/SEG4 (io), 35 P54/~{WKP4}/SEG5 (io), 36 P55/~{WKP5}/SEG6 (io), 37 P56/~{WKP6}/SEG7 (io), 38 P57/~{WKP7}/SEG8 (io), 39 P60/SEG9 (io), 40 P61/SEG10 (io), 41 P62/SEG11 (io), 42 P63/SEG12 (io), 43 P64/SEG13 (io), 44 P65/SEG14 (io), 45 P66/SEG15 (io), 46 P67/SEG16 (io), 47 P70/SEG17 (io), 48 P71/SEG18 (io), 49 P72/SEG19 (io), 50 P73/SEG20 (io), 51 P74/SEG21 (io), 52 P75/SEG22 (io), 53 P76/SEG23 (io), 54 P77/SEG24 (io), 55 P80/SEG25 (io), 56 P81/SEG26 (io), 57 P82/SEG27 (io), 58 P83/SEG28 (io), 59 P84/SEG29 (io), 60 P85/SEG30 (io), 61 P86/SEG31 (io), 62 P87/SEG32 (io), 63 PB7/AIN1 (in), 64 PB6/AIN2 (in), 65 PB5/VREF/REF (in), 70 PB2/AN2/~{IRQ3} (in), 71 PB1/AN1/~{IRQ1} (in), 72 PB0/AN0/~{IRQ0} (in), 73 IRQAEC (in), 74 P90/PWM1 (io), 75 P91/PWM2 (io), 76 P92/~{IRQ4} (io), 77 P93 (io), 78 P10/AEVH (io), 79 P11/AEVL (io), 80 P12/TIOCA1/TCLKA (io)
part B pins: 12 VSS (power), 21 VCC (power), 22 C1 (power), 23 C2 (power), 24 V1 (power), 25 V2 (power), 26 V3 (power), 66 ACOM (in), 67 DVCC (in), 68 AVSS (in), 69 AVCC (in)

## HD64F38086RLPV
designator U?
H8 Family 32/16-bit CISC, H8/300H Super Low Power, 48K ROM, 2K RAM, 4.2MHz, 1.8 to 3.6V, 85-Ball BGA; Published: 28-Aug-2009; DatasheetVersion: Rev.3.00, Aug-2006; PackageVersion: Sep-2005; PackageReference: PTLG0085JA-A; Publisher: Altium Limited; PackageDescription: 85-Ball Plastic Thin Fine-Pitch BGA, 7 x 7 mm Body, 0.65 mm Pitch; Code_JEITA: P-TFLGA85-7x7-0.65; ComponentLink1Description: Manufacturer Link; ComponentLink1URL: http://sg.renesas.com/fmwk.jsp?cnt=h8_family_landing.jsp&fp=/products/mpumcu/h8_family/; ComponentLink2Description: Datasheet; ComponentLink2URL: http://documentation.renesas.com/eng/products/mpumcu/rej09b0182_h838086r.pdf; ComponentLink3Description: Packaging Specification; ComponentLink3URL: http://sg.renesas.com/media/products/common_info/package/pdf/ic/code/ptlg0085ja_a.pdf
footprint PTLG0085JA-A (BGA, 85-Leads, Body 7x7mm, Pitch 0.65mm)
part A pins: A2 P11/AEVL (io), A3 P12/TIOCA1/TCLKA (io), A4 P93 (io), A5 P90/PWM1 (io), A7 PB5/VREF/REF (in), A8 P87/SEG32 (io), A9 P86/SEG31 (io), B1 P13/TIOCB1/TCLKB (io), B2 P15/TIOCB2 (io), B3 P92/~{IRQ4} (io), B4 P91/PWM2 (io), B5 PB2/AN2/~{IRQ3} (in), B6 PB1/AN1/~{IRQ1} (power), B8 PB6/AIN2 (in), B9 PB7/AIN1 (in), B10 P84/SEG29 (io), C1 P14/TIOCA2/TCLKC (io), C2 P16/SCK4 (io), C3 P10/AEVH (io), C4 IRQAEC (in), C5 PB0/AN0/~{IRQ0} (power), C8 P83/SEG28 (io), C9 P81/SEG26 (io), C10 P85/SEG30 (io), D1 P30/SCK32/TMOW (io), D2 P32/TXD32/SCL (io), D3 P31/RXD32/SDA (io), D8 P76/SEG23 (io), D9 P80/SEG25 (io), D10 P82/SEG27 (io), E1 P36/SI4 (io), E2 X2 (out), E3 P37/SO4 (io), E8 P75/SEG22 (io), E9 P73/SEG20 (io), E10 P77/SEG24 (io), F1 OSC1 (in), F2 X1 (in), F8 P72/SEG19 (io), F9 P74/SEG21 (io), F10 P71/SEG18 (io), G1 ~{NMI} (in), G2 TEST/~{ADTRG} (in), G3 OSC2 (out), G8 P67/SEG16 (io), G9 P70/SEG17 (io), G10 P66/SEG15 (io), H1 P42/TXD31/IRTXD/TMOFH (io), H2 ~{RES} (in), H3 P40/SCK31/TMIF (io), H5 PA2/COM3 (io), H6 P51/~{WKP1}/SEG2 (io), H7 P52/~{WKP2}/SEG3 (io), H8 P57/~{WKP7}/SEG8 (io), H9 P65/SEG14 (io), H10 P63/SEG12 (io), J1 P41/RXD31/IRRXD/TMOFL (io), J4 PA0/COM1 (io), J5 P50/~{WKP0}/SEG1 (io), J6 PA3/COM4 (io), J7 P54/WKP4/SEG5 (io), J8 P55/~{WKP5}/SEG6 (io), J9 P64/SEG13 (io), J10 P62/SEG11 (io), K5 PA1/COM2 (io), K6 P53/~{WKP3}/SEG4 (io), K7 P56/~{WKP6}/SEG7 (io), K8 P61/SEG10 (io), K9 P60/SEG9 (io)
part B pins: A1 NC (in), A6 AVSS (in), A10 NC, B7 DVCC (in), C6 AVCC (in), C7 ACOM (in), D4 NC, F3 VSS (power), H4 V3 (power), J2 C2 (power), J3 V1 (power), K1 NC, K2 VCC (power), K3 C1 (power), K4 V2 (power), K10 NC

## HD64F38086RW
designator U?
H8 Family 32/16-bit CISC, H8/300H Super Low Power, 48K ROM, 2K RAM, 4.2MHz, 1.8 to 3.6V, 80-Pin QFP; Published: 28-Aug-2009; DatasheetVersion: Rev.3.00, Aug-2006; PackageVersion: Sep-2005; PackageReference: PTQP0080KC-A; Publisher: Altium Limited; PackageDescription: 80-Pin Plastic Thin Quad Flat Pack, 12 x 12 x 1.0 mm Body, 0.5 mm Pitch; Code_JEITA: P-TQFP80-12x12-0.50; ComponentLink1Description: Manufacturer Link; ComponentLink1URL: http://sg.renesas.com/fmwk.jsp?cnt=h8_family_landing.jsp&fp=/products/mpumcu/h8_family/; ComponentLink2Description: Datasheet; ComponentLink2URL: http://documentation.renesas.com/eng/products/mpumcu/rej09b0182_h838086r.pdf; ComponentLink3Description: Packaging Specification; ComponentLink3URL: http://sg.renesas.com/media/products/common_info/package/pdf/ic/code/ptqp0080kc_a.pdf
footprint PTQP0080KC-A_N (Thin QFP, 80-Leads, Body 12x12mm, Pitch 0.5mm, IPC Medium Density)
footprint PTQP0080KC-A_L (Thin QFP, 80-Leads, Body 12x12mm, Pitch 0.5mm, IPC High Density)
footprint PTQP0080KC-A_M (Thin QFP, 80-Leads, Body 12x12mm, Pitch 0.5mm, IPC Low Density)
part A pins: 1 P13/TIOCB1/TCLKB (io), 2 P14/TIOCA2/TCLKC (io), 3 P15/TIOCB2 (io), 4 P16/SCK4 (io), 5 P30/SCK32/TMOW (io), 6 P31/RXD32/SDA (io), 7 P32/TXD32/SCL (io), 8 P36/SI4 (io), 9 P37/SO4 (io), 10 X1 (in), 11 X2 (out), 13 OSC2 (out), 14 OSC1 (in), 15 TEST/~{ADTRG} (in), 16 ~{RES} (in), 17 ~{NMI} (in), 18 P40/SCK31/TMIF (io), 19 P41/RXD31/IRRXD/TMOFL (io), 20 P42/TXD31/IRTXD/TMOFH (io), 27 PA0/COM1 (io), 28 PA1/COM2 (io), 29 PA2/COM3 (io), 30 PA3/COM4 (io), 31 P50/~{WKP0}/SEG1 (io), 32 P51/~{WKP1}/SEG2 (io), 33 P52/~{WKP2}/SEG3 (io), 34 P53/~{WKP3}/SEG4 (io), 35 P54/~{WKP4}/SEG5 (io), 36 P55/~{WKP5}/SEG6 (io), 37 P56/~{WKP6}/SEG7 (io), 38 P57/~{WKP7}/SEG8 (io), 39 P60/SEG9 (io), 40 P61/SEG10 (io), 41 P62/SEG11 (io), 42 P63/SEG12 (io), 43 P64/SEG13 (io), 44 P65/SEG14 (io), 45 P66/SEG15 (io), 46 P67/SEG16 (io), 47 P70/SEG17 (io), 48 P71/SEG18 (io), 49 P72/SEG19 (io), 50 P73/SEG20 (io), 51 P74/SEG21 (io), 52 P75/SEG22 (io), 53 P76/SEG23 (io), 54 P77/SEG24 (io), 55 P80/SEG25 (io), 56 P81/SEG26 (io), 57 P82/SEG27 (io), 58 P83/SEG28 (io), 59 P84/SEG29 (io), 60 P85/SEG30 (io), 61 P86/SEG31 (io), 62 P87/SEG32 (io), 63 PB7/AIN1 (in), 64 PB6/AIN2 (in), 65 PB5/VREF/REF (in), 70 PB2/AN2/~{IRQ3} (in), 71 PB1/AN1/~{IRQ1} (in), 72 PB0/AN0/~{IRQ0} (in), 73 IRQAEC (in), 74 P90/PWM1 (io), 75 P91/PWM2 (io), 76 P92/~{IRQ4} (io), 77 P93 (io), 78 P10/AEVH (io), 79 P11/AEVL (io), 80 P12/TIOCA1/TCLKA (io)
part B pins: 12 VSS (power), 21 VCC (power), 22 C1 (power), 23 C2 (power), 24 V1 (power), 25 V2 (power), 26 V3 (power), 66 ACOM (in), 67 DVCC (in), 68 AVSS (in), 69 AVCC (in)

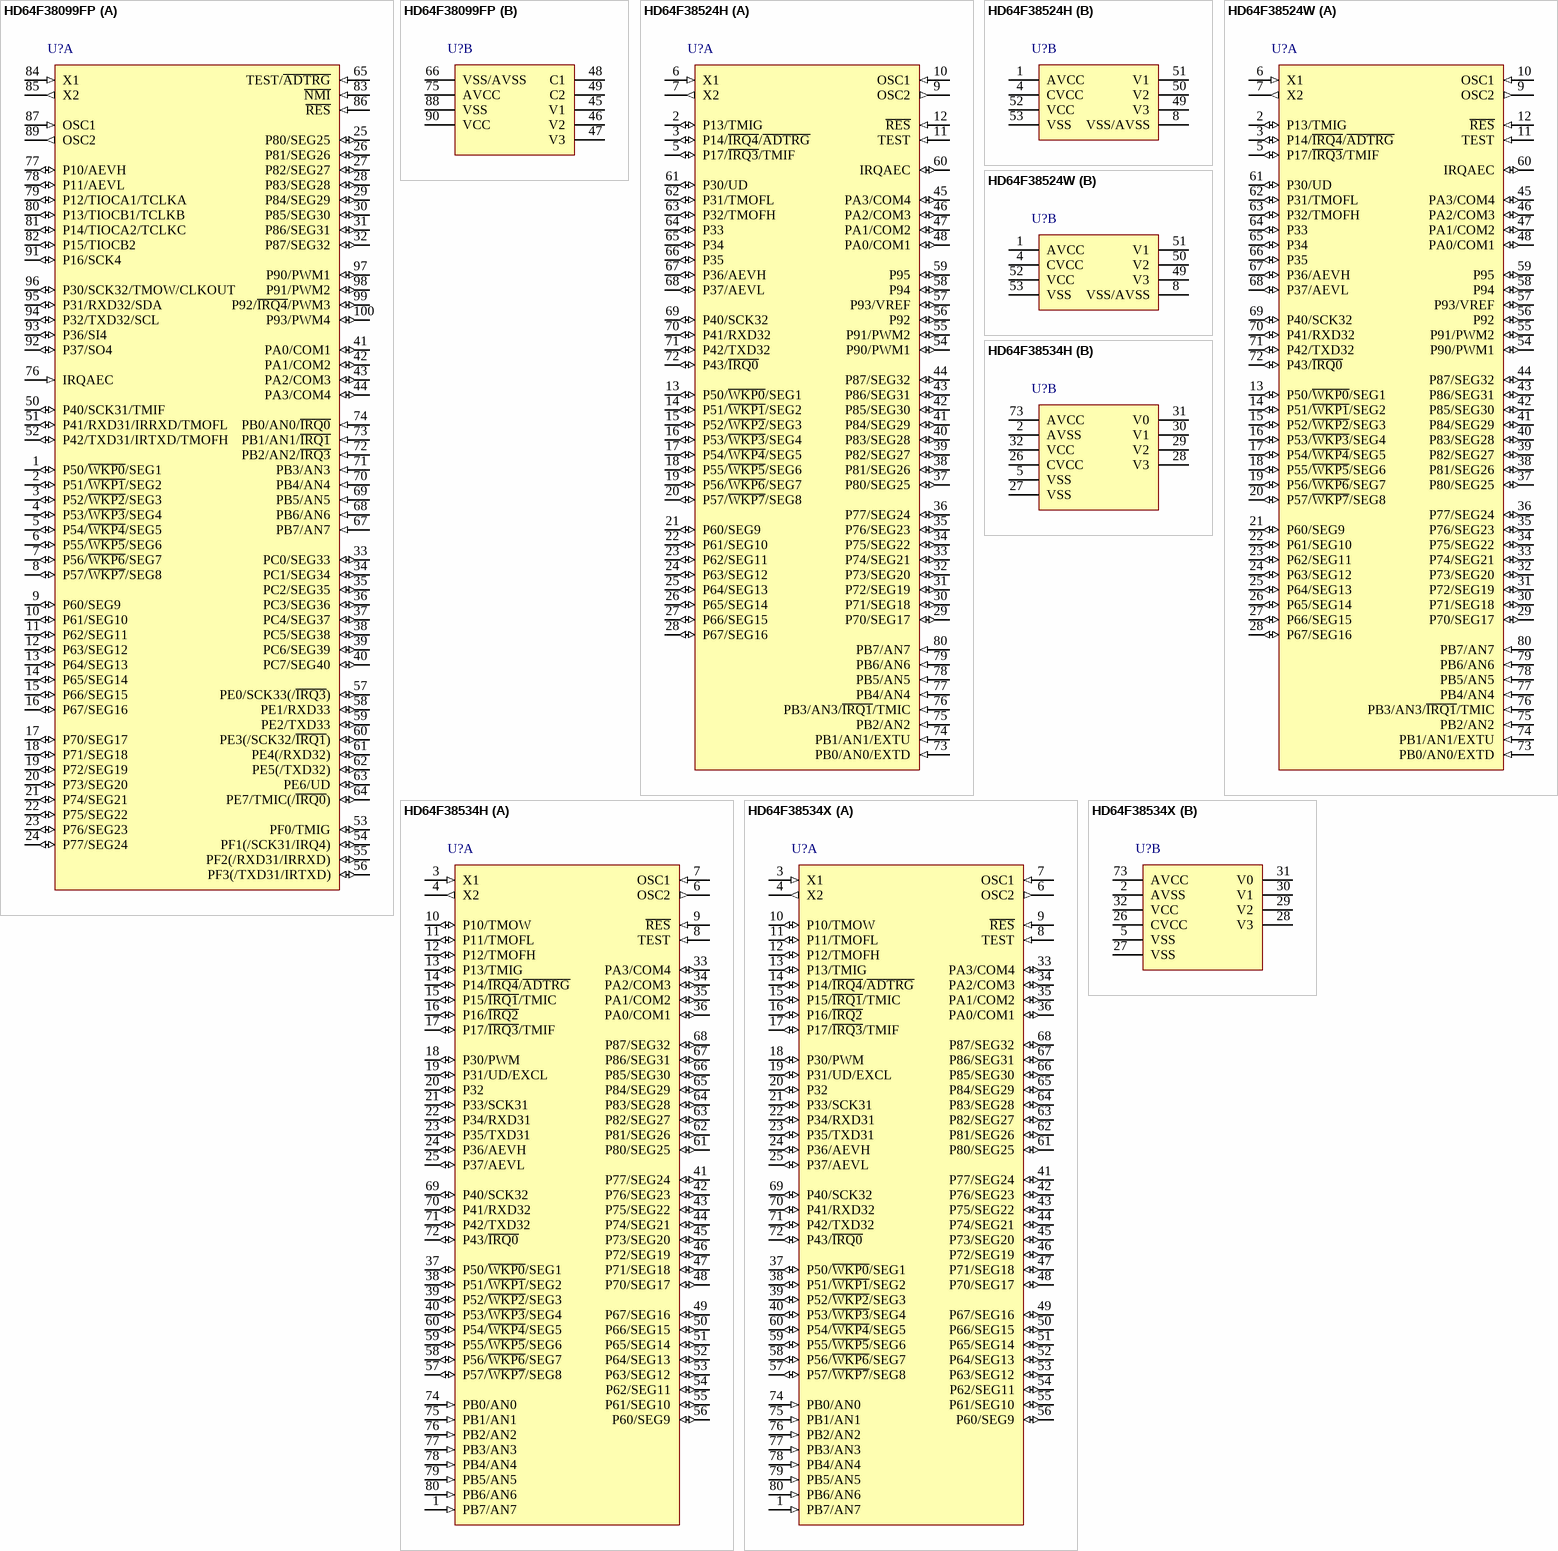
[diagram p27: symbols HD64F38099FP to HD64F38534X]

## HD64F38099FP
designator U?
H8 Family 32/16-bit CISC, H8/300H Super Low Power, 128K ROM, 4K RAM, 4.2MHz, 1.8 to 3.6V, 100-Pin QFP; Published: 28-Aug-2009; DatasheetVersion: Rev.2.00, Jul-2007; PackageVersion: Sep-2005; PackageReference: PLQP0100KB-A; Publisher: Altium Limited; PackageDescription: 100-Pin Plastic Low Profile QFP, 14 x 14 x 1.4 mm Body, 0.5 mm Pitch; Code_JEITA: P-LQFP100-14x14-0.50; Code_IPC: SQFP50P1600X1600-100; ComponentLink1Description: Manufacturer Link; ComponentLink1URL: http://sg.renesas.com/fmwk.jsp?cnt=h8_family_landing.jsp&fp=/products/mpumcu/h8_family/; ComponentLink2Description: Datasheet; ComponentLink2URL: http://documentation.renesas.com/eng/products/mpumcu/rej09b0309_h838099hm.pdf; ComponentLink3Description: Packaging Specification; ComponentLink3URL: http://sg.renesas.com/media/products/common_info/package/pdf/ic/code/plqp0100kb_a.pdf
footprint PLQP0100KB-A_N (Shrink QFP, 100-Leads, Body 14x14mm, Pitch 0.5mm, IPC Medium Density)
footprint PLQP0100KB-A_L (Shrink QFP, 100-Leads, Body 14x14mm, Pitch 0.5mm, IPC High Density)
footprint PLQP0100KB-A_M (Shrink QFP, 100-Leads, Body 14x14mm, Pitch 0.5mm, IPC Low Density)
part A pins: 1 P50/~{WKP0}/SEG1 (io), 2 P51/~{WKP1}/SEG2 (io), 3 P52/~{WKP2}/SEG3 (io), 4 P53/~{WKP3}/SEG4 (io), 5 P54/~{WKP4}/SEG5 (io), 6 P55/~{WKP5}/SEG6 (io), 7 P56/~{WKP6}/SEG7 (io), 8 P57/~{WKP7}/SEG8 (io), 9 P60/SEG9 (io), 10 P61/SEG10 (io), 11 P62/SEG11 (io), 12 P63/SEG12 (io), 13 P64/SEG13 (io), 14 P65/SEG14 (io), 15 P66/SEG15 (io), 16 P67/SEG16 (io), 17 P70/SEG17 (io), 18 P71/SEG18 (io), 19 P72/SEG19 (io), 20 P73/SEG20 (io), 21 P74/SEG21 (io), 22 P75/SEG22 (io), 23 P76/SEG23 (io), 24 P77/SEG24 (io), 25 P80/SEG25 (io), 26 P81/SEG26 (io), 27 P82/SEG27 (io), 28 P83/SEG28 (io), 29 P84/SEG29 (io), 30 P85/SEG30 (io), 31 P86/SEG31 (io), 32 P87/SEG32 (io), 33 PC0/SEG33 (io), 34 PC1/SEG34 (io), 35 PC2/SEG35 (io), 36 PC3/SEG36 (io), 37 PC4/SEG37 (io), 38 PC5/SEG38 (io), 39 PC6/SEG39 (io), 40 PC7/SEG40 (io), 41 PA0/COM1 (io), 42 PA1/COM2 (io), 43 PA2/COM3 (io), 44 PA3/COM4 (io), 50 P40/SCK31/TMIF (io), 51 P41/RXD31/IRRXD/TMOFL (io), 52 P42/TXD31/IRTXD/TMOFH (io), 53 PF0/TMIG (io), 54 PF1(/SCK31/IRQ4) (io), 55 PF2(/RXD31/IRRXD) (io), 56 PF3(/TXD31/IRTXD) (io), 57 PE0/SCK33(/~{IRQ3}) (io), 58 PE1/RXD33 (io), 59 PE2/TXD33 (io), 60 PE3(/SCK32/~{IRQ1}) (io), 61 PE4(/RXD32) (io), 62 PE5(/TXD32) (io), 63 PE6/UD (io), 64 PE7/TMIC(/~{IRQ0}) (io), 65 TEST/~{ADTRG} (in), 67 PB7/AN7 (in), 68 PB6/AN6 (in), 69 PB5/AN5 (in), 70 PB4/AN4 (in), 71 PB3/AN3 (in), 72 PB2/AN2/~{IRQ3} (in), 73 PB1/AN1/~{IRQ1} (in), 74 PB0/AN0/~{IRQ0} (in), 76 IRQAEC (in), 77 P10/AEVH (io), 78 P11/AEVL (io), 79 P12/TIOCA1/TCLKA (io), 80 P13/TIOCB1/TCLKB (io), 81 P14/TIOCA2/TCLKC (io), 82 P15/TIOCB2 (io), 83 ~{NMI} (in), 84 X1 (in), 85 X2 (out), 86 ~{RES} (in), 87 OSC1 (in), 89 OSC2 (out), 91 P16/SCK4 (io), 92 P37/SO4 (io), 93 P36/SI4 (io), 94 P32/TXD32/SCL (io), 95 P31/RXD32/SDA (io), 96 P30/SCK32/TMOW/CLKOUT (io), 97 P90/PWM1 (io), 98 P91/PWM2 (io), 99 P92/~{IRQ4}/PWM3 (io), 100 P93/PWM4 (io)
part B pins: 45 V1 (power), 46 V2 (power), 47 V3 (power), 48 C1 (power), 49 C2 (power), 66 VSS/AVSS (power), 75 AVCC (power), 88 VSS (power), 90 VCC (power)

## HD64F38524H
designator U?
H8 Family 8-bit MCU, H8/300H Super Low Power, 32K ROM, 1K RAM, 10MHz, 2.7 to 5.5V, 80-Pin QFP; Published: 28-Aug-2009; DatasheetVersion: Rev.1.00, Dec-2007; PackageVersion: Sep-2005; PackageReference: PRQP0080JB-A; Publisher: Altium Limited; PackageDescription: 80-Pin Plastic Quad Flat Pack, 14 x 14 x 2.7 mm Body, 0.65 mm Pitch; Code_JEITA: P-QFP80-14x14-0.65; Code_IPC: QFP65P1720X1720-80; ComponentLink1Description: Manufacturer Link; ComponentLink1URL: http://sg.renesas.com/fmwk.jsp?cnt=h8_family_landing.jsp&fp=/products/mpumcu/h8_family/; ComponentLink2Description: Datasheet; ComponentLink2URL: http://documentation.renesas.com/eng/products/mpumcu/rej09b0409_h838524hm.pdf; ComponentLink3Description: Packaging Specification; ComponentLink3URL: http://sg.renesas.com/media/products/common_info/package/pdf/ic/code/prqp0080jb_a.pdf
footprint PRQP0080JB-A_N (QFP, 80-Leads, Body 14x14mm, Pitch 0.65mm, IPC Medium Density)
footprint PRQP0080JB-A_L (QFP, 80-Leads, Body 14x14mm, Pitch 0.65mm, IPC High Density)
footprint PRQP0080JB-A_M (QFP, 80-Leads, Body 14x14mm, Pitch 0.65mm, IPC Low Density)
part A pins: 2 P13/TMIG (io), 3 P14/~{IRQ4}/~{ADTRG} (io), 5 P17/~{IRQ3}/TMIF (io), 6 X1 (in), 7 X2 (out), 9 OSC2 (out), 10 OSC1 (in), 11 TEST (in), 12 ~{RES} (in), 13 P50/~{WKP0}/SEG1 (io), 14 P51/~{WKP1}/SEG2 (io), 15 P52/~{WKP2}/SEG3 (io), 16 P53/~{WKP3}/SEG4 (io), 17 P54/~{WKP4}/SEG5 (io), 18 P55/~{WKP5}/SEG6 (io), 19 P56/~{WKP6}/SEG7 (io), 20 P57/~{WKP7}/SEG8 (io), 21 P60/SEG9 (io), 22 P61/SEG10 (io), 23 P62/SEG11 (io), 24 P63/SEG12 (io), 25 P64/SEG13 (io), 26 P65/SEG14 (io), 27 P66/SEG15 (io), 28 P67/SEG16 (io), 29 P70/SEG17 (io), 30 P71/SEG18 (io), 31 P72/SEG19 (io), 32 P73/SEG20 (io), 33 P74/SEG21 (io), 34 P75/SEG22 (io), 35 P76/SEG23 (io), 36 P77/SEG24 (io), 37 P80/SEG25 (io), 38 P81/SEG26 (io), 39 P82/SEG27 (io), 40 P83/SEG28 (io), 41 P84/SEG29 (io), 42 P85/SEG30 (io), 43 P86/SEG31 (io), 44 P87/SEG32 (io), 45 PA3/COM4 (io), 46 PA2/COM3 (io), 47 PA1/COM2 (io), 48 PA0/COM1 (io), 54 P90/PWM1 (io), 55 P91/PWM2 (io), 56 P92 (io), 57 P93/VREF (io), 58 P94 (io), 59 P95 (io), 60 IRQAEC (io), 61 P30/UD (io), 62 P31/TMOFL (io), 63 P32/TMOFH (io), 64 P33 (io), 65 P34 (io), 66 P35 (io), 67 P36/AEVH (io), 68 P37/AEVL (io), 69 P40/SCK32 (io), 70 P41/RXD32 (io), 71 P42/TXD32 (io), 72 P43/~{IRQ0} (io), 73 PB0/AN0/EXTD (in), 74 PB1/AN1/EXTU (in), 75 PB2/AN2 (in), 76 PB3/AN3/~{IRQ1}/TMIC (in), 77 PB4/AN4 (in), 78 PB5/AN5 (in), 79 PB6/AN6 (in), 80 PB7/AN7 (in)
part B pins: 1 AVCC (power), 4 CVCC (power), 8 VSS/AVSS (power), 49 V3 (power), 50 V2 (power), 51 V1 (power), 52 VCC (power), 53 VSS (power)

## HD64F38524W
designator U?
H8 Family 8-bit MCU, H8/300H Super Low Power, 32K ROM, 1K RAM, 10MHz, 2.7 to 5.5V, 80-Pin QFP; Published: 28-Aug-2009; DatasheetVersion: Rev.1.00, Dec-2007; PackageVersion: Sep-2005; PackageReference: PTQP0080KC-A; Publisher: Altium Limited; PackageDescription: 80-Pin Plastic Thin Quad Flat Pack, 12 x 12 x 1.0 mm Body, 0.5 mm Pitch; Code_JEITA: P-TQFP80-12x12-0.50; ComponentLink1Description: Manufacturer Link; ComponentLink1URL: http://sg.renesas.com/fmwk.jsp?cnt=h8_family_landing.jsp&fp=/products/mpumcu/h8_family/; ComponentLink2Description: Datasheet; ComponentLink2URL: http://documentation.renesas.com/eng/products/mpumcu/rej09b0409_h838524hm.pdf; ComponentLink3Description: Packaging Specification; ComponentLink3URL: http://sg.renesas.com/media/products/common_info/package/pdf/ic/code/ptqp0080kc_a.pdf
footprint PTQP0080KC-A_N (Thin QFP, 80-Leads, Body 12x12mm, Pitch 0.5mm, IPC Medium Density)
footprint PTQP0080KC-A_L (Thin QFP, 80-Leads, Body 12x12mm, Pitch 0.5mm, IPC High Density)
footprint PTQP0080KC-A_M (Thin QFP, 80-Leads, Body 12x12mm, Pitch 0.5mm, IPC Low Density)
part A pins: 2 P13/TMIG (io), 3 P14/~{IRQ4}/~{ADTRG} (io), 5 P17/~{IRQ3}/TMIF (io), 6 X1 (in), 7 X2 (out), 9 OSC2 (out), 10 OSC1 (in), 11 TEST (in), 12 ~{RES} (in), 13 P50/~{WKP0}/SEG1 (io), 14 P51/~{WKP1}/SEG2 (io), 15 P52/~{WKP2}/SEG3 (io), 16 P53/~{WKP3}/SEG4 (io), 17 P54/~{WKP4}/SEG5 (io), 18 P55/~{WKP5}/SEG6 (io), 19 P56/~{WKP6}/SEG7 (io), 20 P57/~{WKP7}/SEG8 (io), 21 P60/SEG9 (io), 22 P61/SEG10 (io), 23 P62/SEG11 (io), 24 P63/SEG12 (io), 25 P64/SEG13 (io), 26 P65/SEG14 (io), 27 P66/SEG15 (io), 28 P67/SEG16 (io), 29 P70/SEG17 (io), 30 P71/SEG18 (io), 31 P72/SEG19 (io), 32 P73/SEG20 (io), 33 P74/SEG21 (io), 34 P75/SEG22 (io), 35 P76/SEG23 (io), 36 P77/SEG24 (io), 37 P80/SEG25 (io), 38 P81/SEG26 (io), 39 P82/SEG27 (io), 40 P83/SEG28 (io), 41 P84/SEG29 (io), 42 P85/SEG30 (io), 43 P86/SEG31 (io), 44 P87/SEG32 (io), 45 PA3/COM4 (io), 46 PA2/COM3 (io), 47 PA1/COM2 (io), 48 PA0/COM1 (io), 54 P90/PWM1 (io), 55 P91/PWM2 (io), 56 P92 (io), 57 P93/VREF (io), 58 P94 (io), 59 P95 (io), 60 IRQAEC (io), 61 P30/UD (io), 62 P31/TMOFL (io), 63 P32/TMOFH (io), 64 P33 (io), 65 P34 (io), 66 P35 (io), 67 P36/AEVH (io), 68 P37/AEVL (io), 69 P40/SCK32 (io), 70 P41/RXD32 (io), 71 P42/TXD32 (io), 72 P43/~{IRQ0} (io), 73 PB0/AN0/EXTD (in), 74 PB1/AN1/EXTU (in), 75 PB2/AN2 (in), 76 PB3/AN3/~{IRQ1}/TMIC (in), 77 PB4/AN4 (in), 78 PB5/AN5 (in), 79 PB6/AN6 (in), 80 PB7/AN7 (in)
part B pins: 1 AVCC (power), 4 CVCC (power), 8 VSS/AVSS (power), 49 V3 (power), 50 V2 (power), 51 V1 (power), 52 VCC (power), 53 VSS (power)

## HD64F38534H
designator U?
H8 Family 32/16-bit CISC, H8/300H Super Low Power, 32K ROM, 2K RAM, 8MHz, 2.7 to 5.5V, 80-Pin QFP; Published: 28-Aug-2009; DatasheetVersion: Rev.1.00, May-2008; PackageVersion: Sep-2005; PackageReference: PRQP0080JB-A; Publisher: Altium Limited; PackageDescription: 80-Pin Plastic Quad Flat Pack, 14 x 14 x 2.7 mm Body, 0.65 mm Pitch; Code_JEITA: P-QFP80-14x14-0.65; Code_IPC: QFP65P1720X1720-80; ComponentLink1Description: Manufacturer Link; ComponentLink1URL: http://sg.renesas.com/fmwk.jsp?cnt=h8_family_landing.jsp&fp=/products/mpumcu/h8_family/; ComponentLink2Description: Datasheet; ComponentLink2URL: http://documentation.renesas.com/eng/products/mpumcu/rej09b0436_h8_38537hm.pdf; ComponentLink3Description: Packaging Specification; ComponentLink3URL: http://sg.renesas.com/media/products/common_info/package/pdf/ic/code/prqp0080jb_a.pdf
footprint PRQP0080JB-A_N (QFP, 80-Leads, Body 14x14mm, Pitch 0.65mm, IPC Medium Density)
footprint PRQP0080JB-A_L (QFP, 80-Leads, Body 14x14mm, Pitch 0.65mm, IPC High Density)
footprint PRQP0080JB-A_M (QFP, 80-Leads, Body 14x14mm, Pitch 0.65mm, IPC Low Density)
part A pins: 1 PB7/AN7 (in), 3 X1 (in), 4 X2 (out), 6 OSC2 (out), 7 OSC1 (in), 8 TEST (in), 9 ~{RES} (in), 10 P10/TMOW (io), 11 P11/TMOFL (io), 12 P12/TMOFH (io), 13 P13/TMIG (io), 14 P14/~{IRQ4}/~{ADTRG} (io), 15 P15/~{IRQ1}/TMIC (io), 16 P16/~{IRQ2} (io), 17 P17/~{IRQ3}/TMIF (io), 18 P30/PWM (io), 19 P31/UD/EXCL (io), 20 P32 (io), 21 P33/SCK31 (io), 22 P34/RXD31 (io), 23 P35/TXD31 (io), 24 P36/AEVH (io), 25 P37/AEVL (io), 33 PA3/COM4 (io), 34 PA2/COM3 (io), 35 PA1/COM2 (io), 36 PA0/COM1 (io), 37 P50/~{WKP0}/SEG1 (io), 38 P51/~{WKP1}/SEG2 (io), 39 P52/~{WKP2}/SEG3 (io), 40 P53/~{WKP3}/SEG4 (io), 41 P77/SEG24 (io), 42 P76/SEG23 (io), 43 P75/SEG22 (io), 44 P74/SEG21 (io), 45 P73/SEG20 (io), 46 P72/SEG19 (io), 47 P71/SEG18 (io), 48 P70/SEG17 (io), 49 P67/SEG16 (io), 50 P66/SEG15 (io), 51 P65/SEG14 (io), 52 P64/SEG13 (io), 53 P63/SEG12 (io), 54 P62/SEG11 (io), 55 P61/SEG10 (io), 56 P60/SEG9 (io), 57 P57/~{WKP7}/SEG8 (io), 58 P56/~{WKP6}/SEG7 (io), 59 P55/~{WKP5}/SEG6 (io), 60 P54/~{WKP4}/SEG5 (io), 61 P80/SEG25 (io), 62 P81/SEG26 (io), 63 P82/SEG27 (io), 64 P83/SEG28 (io), 65 P84/SEG29 (io), 66 P85/SEG30 (io), 67 P86/SEG31 (io), 68 P87/SEG32 (io), 69 P40/SCK32 (io), 70 P41/RXD32 (io), 71 P42/TXD32 (io), 72 P43/~{IRQ0} (io), 74 PB0/AN0 (in), 75 PB1/AN1 (in), 76 PB2/AN2 (in), 77 PB3/AN3 (in), 78 PB4/AN4 (in), 79 PB5/AN5 (in), 80 PB6/AN6 (in)
part B pins: 2 AVSS (power), 5 VSS (power), 26 CVCC (power), 27 VSS (power), 28 V3 (power), 29 V2 (power), 30 V1 (power), 31 V0 (power), 32 VCC (power), 73 AVCC (power)

## HD64F38534X
designator U?
H8 Family 32/16-bit CISC, H8/300H Super Low Power, 32K ROM, 2K RAM, 8MHz, 2.7 to 5.5V, 80-Pin QFP; Published: 28-Aug-2009; DatasheetVersion: Rev.1.00, May-2008; PackageVersion: Sep-2005; PackageReference: PTQP0080KC-A; Publisher: Altium Limited; PackageDescription: 80-Pin Plastic Thin Quad Flat Pack, 12 x 12 x 1.0 mm Body, 0.5 mm Pitch; Code_JEITA: P-TQFP80-12x12-0.50; ComponentLink1Description: Manufacturer Link; ComponentLink1URL: http://sg.renesas.com/fmwk.jsp?cnt=h8_family_landing.jsp&fp=/products/mpumcu/h8_family/; ComponentLink2Description: Datasheet; ComponentLink2URL: http://documentation.renesas.com/eng/products/mpumcu/rej09b0436_h8_38537hm.pdf; ComponentLink3Description: Packaging Specification; ComponentLink3URL: http://sg.renesas.com/media/products/common_info/package/pdf/ic/code/ptqp0080kc_a.pdf
footprint PTQP0080KC-A_N (Thin QFP, 80-Leads, Body 12x12mm, Pitch 0.5mm, IPC Medium Density)
footprint PTQP0080KC-A_L (Thin QFP, 80-Leads, Body 12x12mm, Pitch 0.5mm, IPC High Density)
footprint PTQP0080KC-A_M (Thin QFP, 80-Leads, Body 12x12mm, Pitch 0.5mm, IPC Low Density)
part A pins: 1 PB7/AN7 (in), 3 X1 (in), 4 X2 (out), 6 OSC2 (out), 7 OSC1 (in), 8 TEST (in), 9 ~{RES} (in), 10 P10/TMOW (io), 11 P11/TMOFL (io), 12 P12/TMOFH (io), 13 P13/TMIG (io), 14 P14/~{IRQ4}/~{ADTRG} (io), 15 P15/~{IRQ1}/TMIC (io), 16 P16/~{IRQ2} (io), 17 P17/~{IRQ3}/TMIF (io), 18 P30/PWM (io), 19 P31/UD/EXCL (io), 20 P32 (io), 21 P33/SCK31 (io), 22 P34/RXD31 (io), 23 P35/TXD31 (io), 24 P36/AEVH (io), 25 P37/AEVL (io), 33 PA3/COM4 (io), 34 PA2/COM3 (io), 35 PA1/COM2 (io), 36 PA0/COM1 (io), 37 P50/~{WKP0}/SEG1 (io), 38 P51/~{WKP1}/SEG2 (io), 39 P52/~{WKP2}/SEG3 (io), 40 P53/~{WKP3}/SEG4 (io), 41 P77/SEG24 (io), 42 P76/SEG23 (io), 43 P75/SEG22 (io), 44 P74/SEG21 (io), 45 P73/SEG20 (io), 46 P72/SEG19 (io), 47 P71/SEG18 (io), 48 P70/SEG17 (io), 49 P67/SEG16 (io), 50 P66/SEG15 (io), 51 P65/SEG14 (io), 52 P64/SEG13 (io), 53 P63/SEG12 (io), 54 P62/SEG11 (io), 55 P61/SEG10 (io), 56 P60/SEG9 (io), 57 P57/~{WKP7}/SEG8 (io), 58 P56/~{WKP6}/SEG7 (io), 59 P55/~{WKP5}/SEG6 (io), 60 P54/~{WKP4}/SEG5 (io), 61 P80/SEG25 (io), 62 P81/SEG26 (io), 63 P82/SEG27 (io), 64 P83/SEG28 (io), 65 P84/SEG29 (io), 66 P85/SEG30 (io), 67 P86/SEG31 (io), 68 P87/SEG32 (io), 69 P40/SCK32 (io), 70 P41/RXD32 (io), 71 P42/TXD32 (io), 72 P43/~{IRQ0} (io), 74 PB0/AN0 (in), 75 PB1/AN1 (in), 76 PB2/AN2 (in), 77 PB3/AN3 (in), 78 PB4/AN4 (in), 79 PB5/AN5 (in), 80 PB6/AN6 (in)
part B pins: 2 AVSS (power), 5 VSS (power), 26 CVCC (power), 27 VSS (power), 28 V3 (power), 29 V2 (power), 30 V1 (power), 31 V0 (power), 32 VCC (power), 73 AVCC (power)

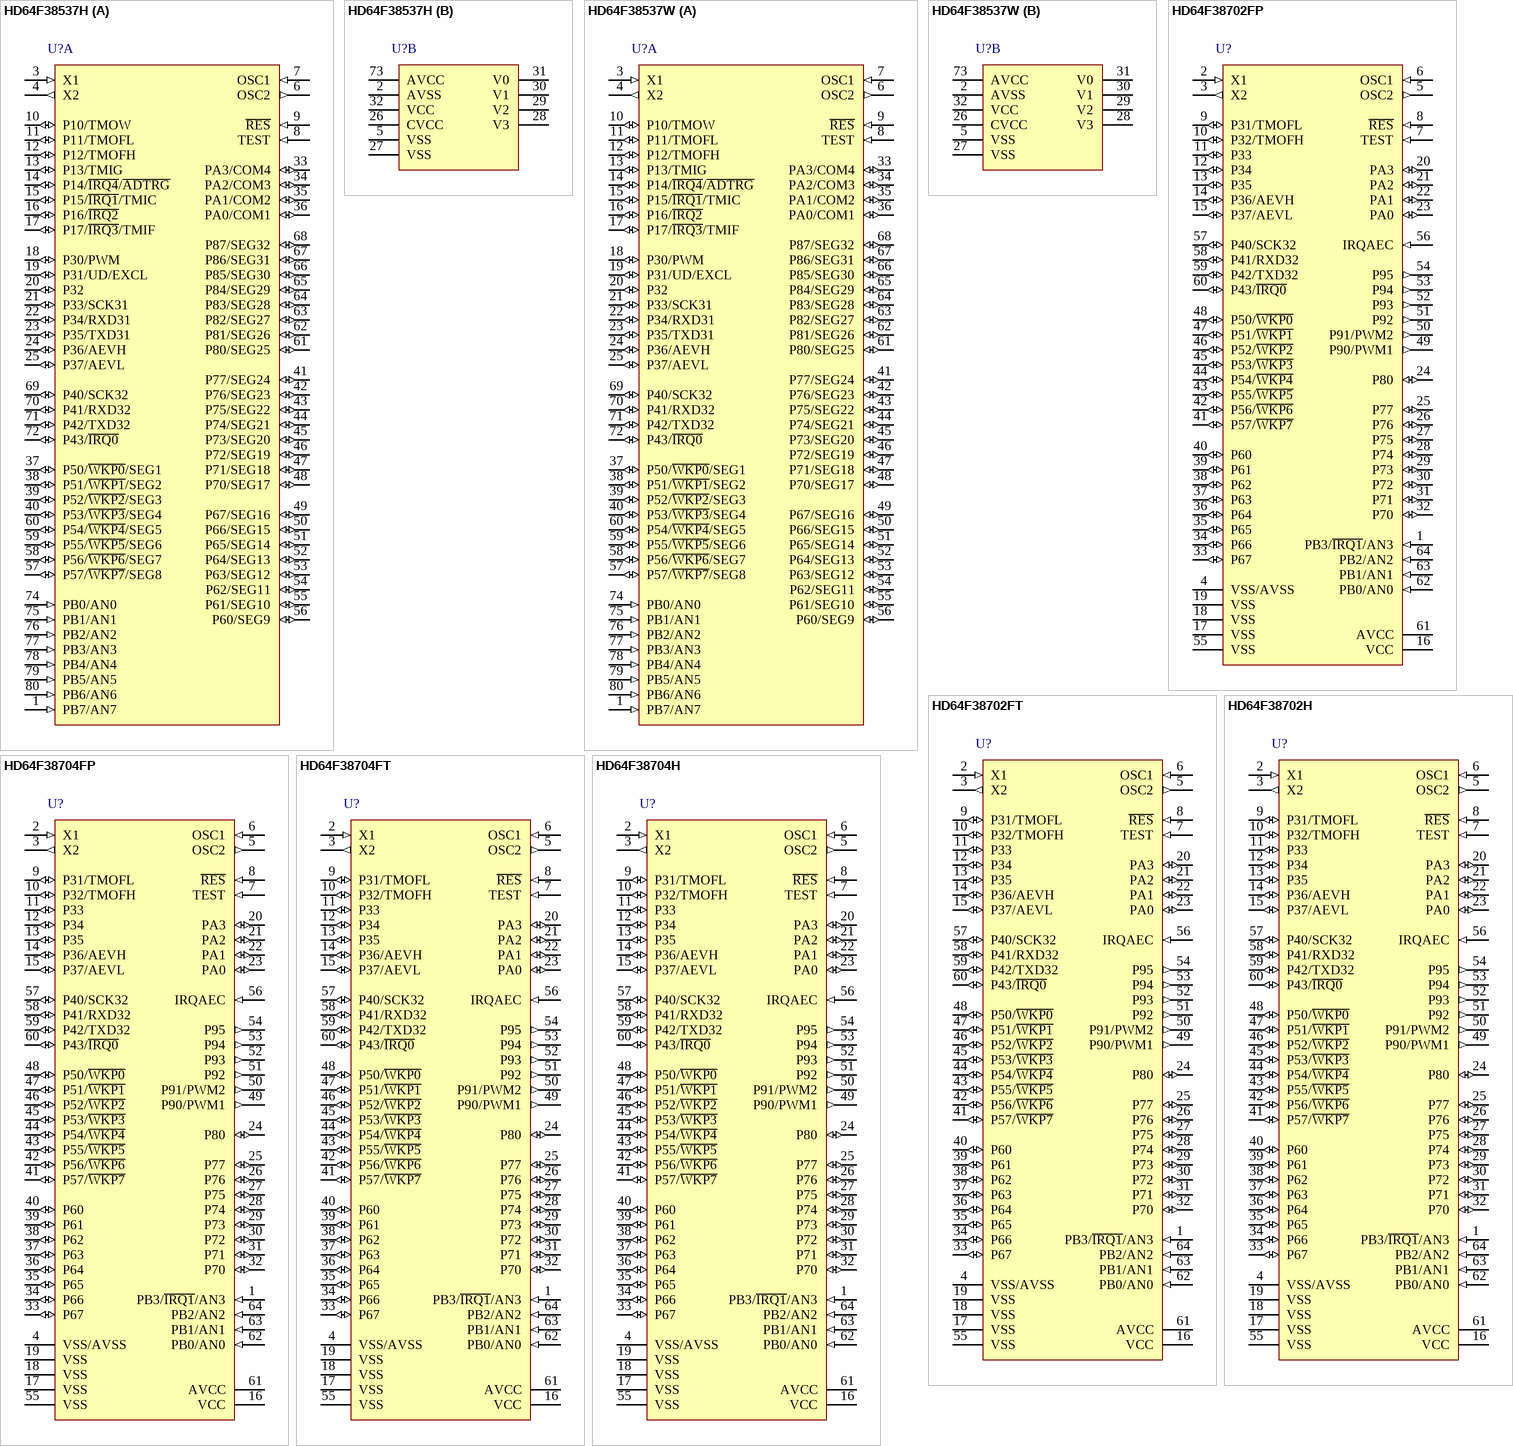
[diagram p28: symbols HD64F38537H to HD64F38704H]

## HD64F38537H
designator U?
H8 Family 32/16-bit CISC, H8/300H Super Low Power, 60K ROM, 2K RAM, 8MHz, 2.7 to 5.5V, 80-Pin QFP; Published: 28-Aug-2009; DatasheetVersion: Rev.1.00, May-2008; PackageVersion: Sep-2005; PackageReference: PRQP0080JB-A; Publisher: Altium Limited; PackageDescription: 80-Pin Plastic Quad Flat Pack, 14 x 14 x 2.7 mm Body, 0.65 mm Pitch; Code_JEITA: P-QFP80-14x14-0.65; Code_IPC: QFP65P1720X1720-80; ComponentLink1Description: Manufacturer Link; ComponentLink1URL: http://sg.renesas.com/fmwk.jsp?cnt=h8_family_landing.jsp&fp=/products/mpumcu/h8_family/; ComponentLink2Description: Datasheet; ComponentLink2URL: http://documentation.renesas.com/eng/products/mpumcu/rej09b0436_h8_38537hm.pdf; ComponentLink3Description: Packaging Specification; ComponentLink3URL: http://sg.renesas.com/media/products/common_info/package/pdf/ic/code/prqp0080jb_a.pdf
footprint PRQP0080JB-A_N (QFP, 80-Leads, Body 14x14mm, Pitch 0.65mm, IPC Medium Density)
footprint PRQP0080JB-A_L (QFP, 80-Leads, Body 14x14mm, Pitch 0.65mm, IPC High Density)
footprint PRQP0080JB-A_M (QFP, 80-Leads, Body 14x14mm, Pitch 0.65mm, IPC Low Density)
part A pins: 1 PB7/AN7 (in), 3 X1 (in), 4 X2 (out), 6 OSC2 (out), 7 OSC1 (in), 8 TEST (in), 9 ~{RES} (in), 10 P10/TMOW (io), 11 P11/TMOFL (io), 12 P12/TMOFH (io), 13 P13/TMIG (io), 14 P14/~{IRQ4}/~{ADTRG} (io), 15 P15/~{IRQ1}/TMIC (io), 16 P16/~{IRQ2} (io), 17 P17/~{IRQ3}/TMIF (io), 18 P30/PWM (io), 19 P31/UD/EXCL (io), 20 P32 (io), 21 P33/SCK31 (io), 22 P34/RXD31 (io), 23 P35/TXD31 (io), 24 P36/AEVH (io), 25 P37/AEVL (io), 33 PA3/COM4 (io), 34 PA2/COM3 (io), 35 PA1/COM2 (io), 36 PA0/COM1 (io), 37 P50/~{WKP0}/SEG1 (io), 38 P51/~{WKP1}/SEG2 (io), 39 P52/~{WKP2}/SEG3 (io), 40 P53/~{WKP3}/SEG4 (io), 41 P77/SEG24 (io), 42 P76/SEG23 (io), 43 P75/SEG22 (io), 44 P74/SEG21 (io), 45 P73/SEG20 (io), 46 P72/SEG19 (io), 47 P71/SEG18 (io), 48 P70/SEG17 (io), 49 P67/SEG16 (io), 50 P66/SEG15 (io), 51 P65/SEG14 (io), 52 P64/SEG13 (io), 53 P63/SEG12 (io), 54 P62/SEG11 (io), 55 P61/SEG10 (io), 56 P60/SEG9 (io), 57 P57/~{WKP7}/SEG8 (io), 58 P56/~{WKP6}/SEG7 (io), 59 P55/~{WKP5}/SEG6 (io), 60 P54/~{WKP4}/SEG5 (io), 61 P80/SEG25 (io), 62 P81/SEG26 (io), 63 P82/SEG27 (io), 64 P83/SEG28 (io), 65 P84/SEG29 (io), 66 P85/SEG30 (io), 67 P86/SEG31 (io), 68 P87/SEG32 (io), 69 P40/SCK32 (io), 70 P41/RXD32 (io), 71 P42/TXD32 (io), 72 P43/~{IRQ0} (io), 74 PB0/AN0 (in), 75 PB1/AN1 (in), 76 PB2/AN2 (in), 77 PB3/AN3 (in), 78 PB4/AN4 (in), 79 PB5/AN5 (in), 80 PB6/AN6 (in)
part B pins: 2 AVSS (power), 5 VSS (power), 26 CVCC (power), 27 VSS (power), 28 V3 (power), 29 V2 (power), 30 V1 (power), 31 V0 (power), 32 VCC (power), 73 AVCC (power)